# Altium integrated library Xilinx XC4000E.IntLib: 265 symbols (part 1 of 27)
Pins are listed as number, name and electrical type; pins without a type are passive.

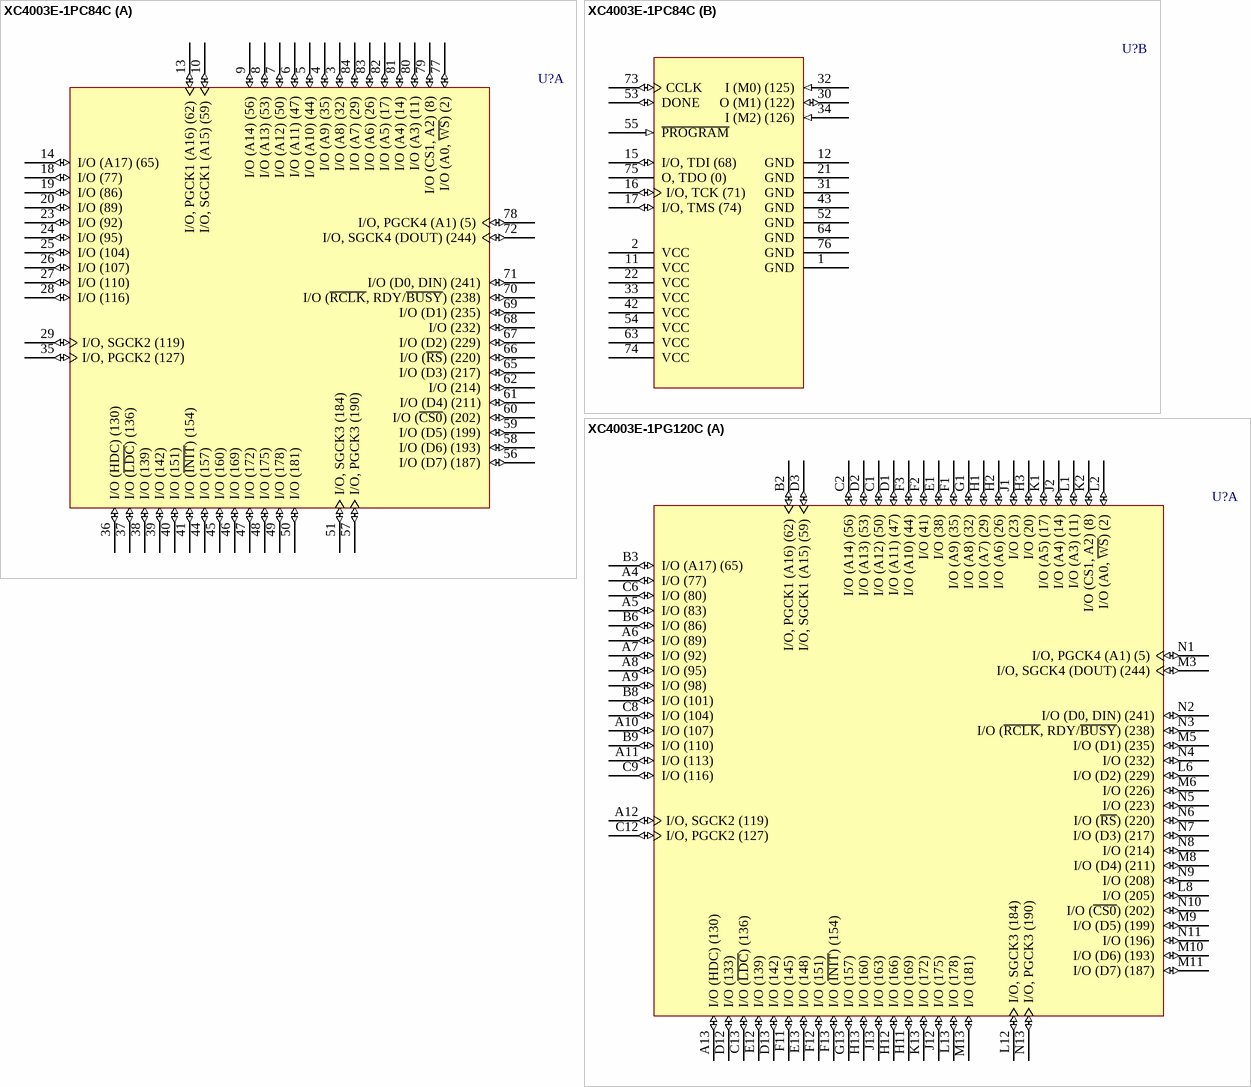
[diagram p0: symbols XC4003E-1PC84C to XC4003E-1PG120C]

## XC4003E-1PC84C
designator U?
XC4000E FPGA, 61 I/Os, 84-Pin PLCC, Speed Grade 1, Commercial Grade; Published: 28-Feb-2003; LatestRevisionDate: 13-Apr-2006; LatestRevisionNote: IPC-7351 Footprint Added.; DatasheetVersion: ver1.6, May-1999; PackageVersion: ver1.2, Jun-2004; PackageReference: PC84; Publisher: Altium Limited; PackageDescription: 84-Pin Plastic Leaded Chip Carrier (PC84); Supplier 1: Digi-Key; Supplier Part Number 1: XC4003E-1PC84C-ND; Code_JEDEC: MS-047; Code_IPC: PLCC-84; ComponentLink1Description: XC4000E Datasheet; ComponentLink1URL: http://www.xilinx.com/support/documentation/data_sheets/4000.pdf; ComponentLink2Description: Discontinuation Notice; ComponentLink2URL: http://www.xilinx.com/support/documentation/customer_notices/xcn05020.pdf; ComponentLink3Description: PC84 Package Drawing; ComponentLink3URL: http://www.xilinx.com/support/documentation/package_specs/pc84.pdf; ComponentLink4Description: XC4000 Documents; ComponentLink4URL: http://www.xilinx.com/support/documentation/xc4000.htm; ComponentLink5Description: Xilinx.com Home; ComponentLink5URL: http://www.xilinx.com
footprint PC84_N (Leaded Chip Carrier, 84-Leads, Body 29.3x29.3mm, Pitch 1.27mm, IPC Medium Density)
footprint PC84_L (Leaded Chip Carrier, 84-Leads, Body 29.3x29.3mm, Pitch 1.27mm, IPC High Density)
footprint PC84_M (Leaded Chip Carrier, 84-Leads, Body 29.3x29.3mm, Pitch 1.27mm, IPC Low Density)
part A pins: 3 I/O (A8) (32) (io), 4 I/O (A9) (35) (io), 5 I/O (A10) (44) (io), 6 I/O (A11) (47) (io), 7 I/O (A12) (50) (io), 8 I/O (A13) (53) (io), 9 I/O (A14) (56) (io), 10 I/O, SGCK1 (A15) (59) (io), 13 I/O, PGCK1 (A16) (62) (io), 14 I/O (A17) (65) (io), 18 I/O (77) (io), 19 I/O (86) (io), 20 I/O (89) (io), 23 I/O (92) (io), 24 I/O (95) (io), 25 I/O (104) (io), 26 I/O (107) (io), 27 I/O (110) (io), 28 I/O (116) (io), 29 I/O, SGCK2 (119) (io), 35 I/O, PGCK2 (127) (io), 36 I/O (HDC) (130) (io), 37 I/O (~{LDC}) (136) (io), 38 I/O (139) (io), 39 I/O (142) (io), 40 I/O (151) (io), 41 I/O (~{INIT}) (154) (io), 44 I/O (157) (io), 45 I/O (160) (io), 46 I/O (169) (io), 47 I/O (172) (io), 48 I/O (175) (io), 49 I/O (178) (io), 50 I/O (181) (io), 51 I/O, SGCK3 (184) (io), 56 I/O (D7) (187) (io), 57 I/O, PGCK3 (190) (io), 58 I/O (D6) (193) (io), 59 I/O (D5) (199) (io), 60 I/O (~{CS0}) (202) (io), 61 I/O (D4) (211) (io), 62 I/O (214) (io), 65 I/O (D3) (217) (io), 66 I/O (~{RS}) (220) (io), 67 I/O (D2) (229) (io), 68 I/O (232) (io), 69 I/O (D1) (235) (io), 70 I/O (~{RCLK}, RDY/~{BUSY}) (238) (io), 71 I/O (D0, DIN) (241) (io), 72 I/O, SGCK4 (DOUT) (244) (io), 77 I/O (A0, ~{WS}) (2) (io), 78 I/O, PGCK4 (A1) (5) (io), 79 I/O (CS1, A2) (8) (io), 80 I/O (A3) (11) (io), 81 I/O (A4) (14) (io), 82 I/O (A5) (17) (io), 83 I/O (A6) (26) (io), 84 I/O (A7) (29) (io)
part B pins: 1 GND (power), 2 VCC (power), 11 VCC (power), 12 GND (power), 15 I/O, TDI (68) (io), 16 I/O, TCK (71) (io), 17 I/O, TMS (74) (io), 21 GND (power), 22 VCC (power), 30 O (M1) (122) (io), 31 GND (power), 32 I (M0) (125) (in), 33 VCC (power), 34 I (M2) (126) (in), 42 VCC (power), 43 GND (power), 52 GND (power), 53 DONE (io), 54 VCC (power), 55 ~{PROGRAM} (in), 63 VCC (power), 64 GND (power), 73 CCLK (io), 74 VCC (power), 75 O, TDO (0) (hiz), 76 GND (power)

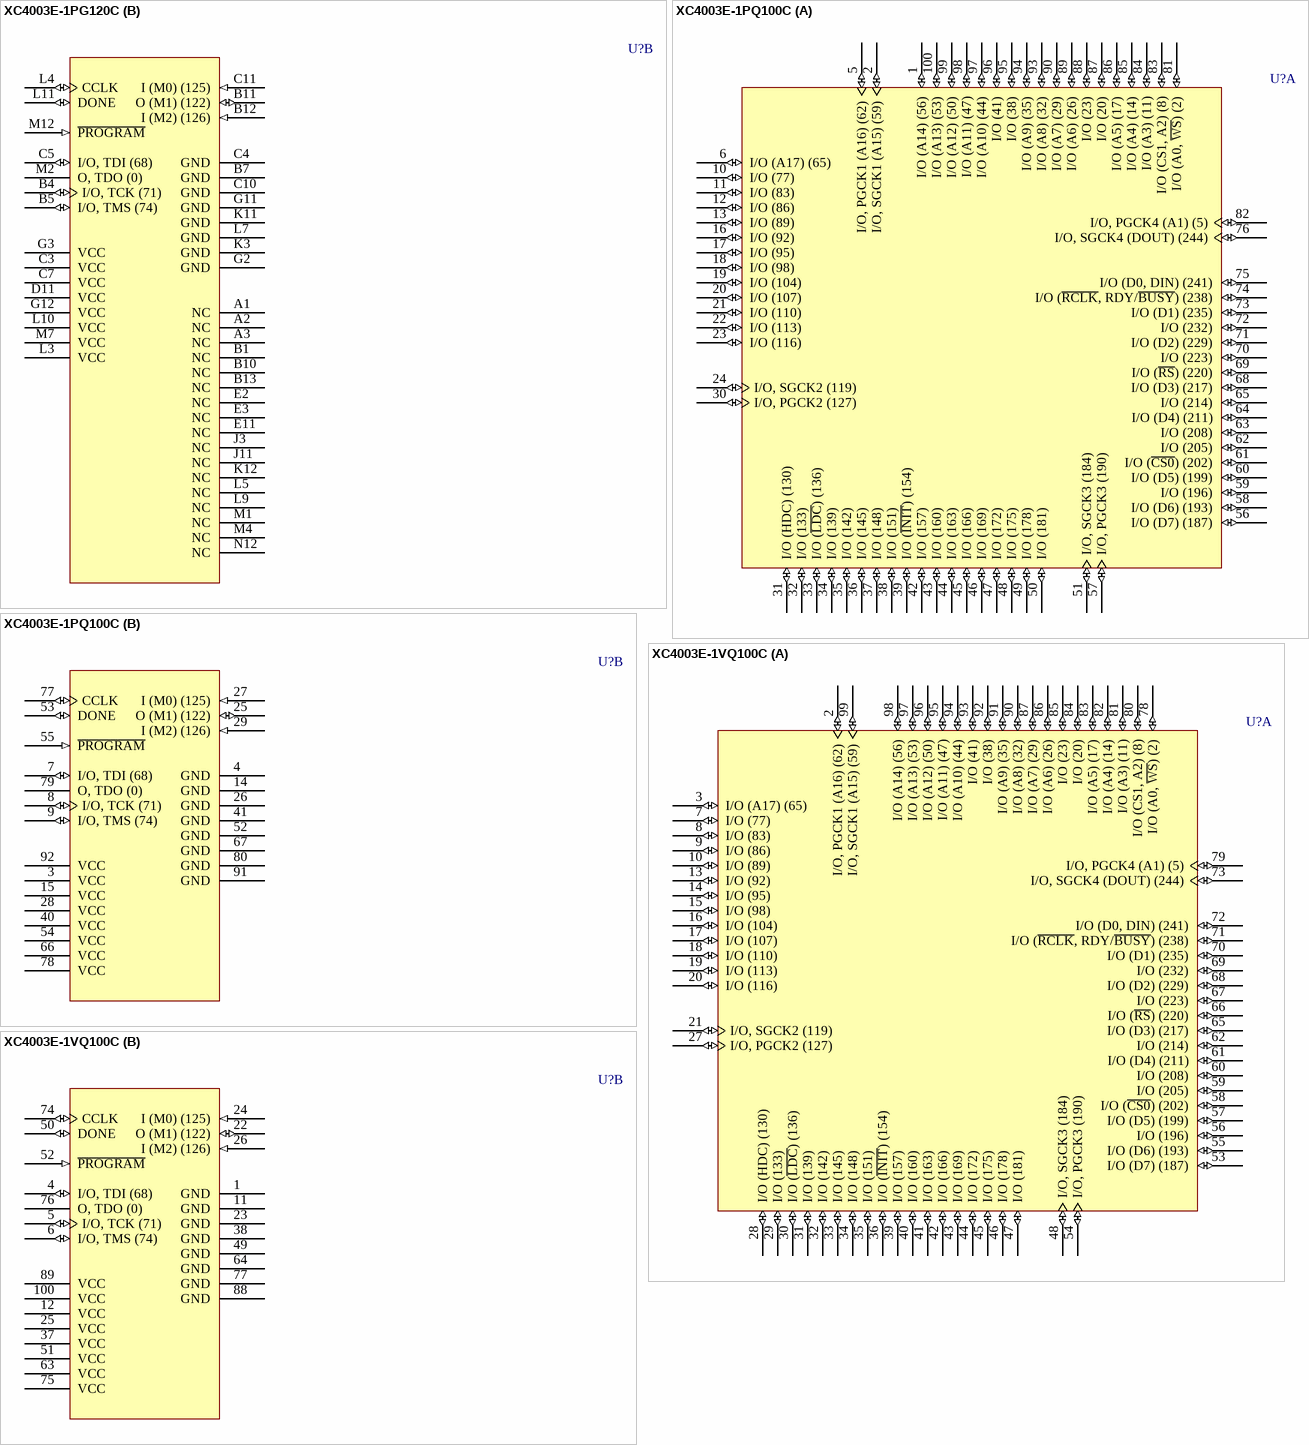
[diagram p1: symbols XC4003E-1PG120C to XC4003E-1VQ100C]

## XC4003E-1PG120C
designator U?
XC4000E FPGA, 80 I/Os, 120-Pin PGA, Speed Grade 1, Commercial Grade; Published: 28-Feb-2003; LatestRevisionDate: 04-Mar-2005; LatestRevisionNote: Stylized 3D Model Added.; DatasheetVersion: ver1.6, May-1999; PackageVersion: ver1.1, Apr-2001; PackageReference: PG120; Publisher: Altium Limited; PackageDescription: 120-Pin Ceramic Pin Grid Array (PG120); Supplier 1: Digi-Key; Supplier Part Number 1: XC4003E-1PG120C-ND; Code_JEDEC: MO-067-AE; ComponentLink1Description: XC4000E Datasheet; ComponentLink1URL: http://www.xilinx.com/support/documentation/data_sheets/4000.pdf; ComponentLink2Description: Discontinuation Notice; ComponentLink2URL: http://www.xilinx.com/support/documentation/customer_notices/pdn2002-03.pdf; ComponentLink3Description: PG120 Package Drawing; ComponentLink3URL: http://www.xilinx.com/support/documentation/package_specs/pg120.pdf; ComponentLink4Description: XC4000 Documents; ComponentLink4URL: http://www.xilinx.com/support/documentation/xc4000.htm; ComponentLink5Description: Xilinx.com Home; ComponentLink5URL: http://www.xilinx.com
footprint PG120 (PGA, 120-Leads, Body 34.5x34.5mm, Pitch 2.54mm)
part A pins: A4 I/O (77) (io), A5 I/O (83) (io), A6 I/O (89) (io), A7 I/O (92) (io), A8 I/O (95) (io), A9 I/O (98) (io), A10 I/O (107) (io), A11 I/O (113) (io), A12 I/O, SGCK2 (119) (io), A13 I/O (HDC) (130) (io), B2 I/O, PGCK1 (A16) (62) (io), B3 I/O (A17) (65) (io), B6 I/O (86) (io), B8 I/O (101) (io), B9 I/O (110) (io), C1 I/O (A12) (50) (io), C2 I/O (A14) (56) (io), C6 I/O (80) (io), C8 I/O (104) (io), C9 I/O (116) (io), C12 I/O, PGCK2 (127) (io), C13 I/O (~{LDC}) (136) (io), D1 I/O (A11) (47) (io), D2 I/O (A13) (53) (io), D3 I/O, SGCK1 (A15) (59) (io), D12 I/O (133) (io), D13 I/O (142) (io), E1 I/O (38) (io), E12 I/O (139) (io), E13 I/O (148) (io), F1 I/O (A9) (35) (io), F2 I/O (41) (io), F3 I/O (A10) (44) (io), F11 I/O (145) (io), F12 I/O (151) (io), F13 I/O (~{INIT}) (154) (io), G1 I/O (A8) (32) (io), G13 I/O (157) (io), H1 I/O (A7) (29) (io), H2 I/O (A6) (26) (io), H3 I/O (20) (io), H11 I/O (169) (io), H12 I/O (166) (io), H13 I/O (160) (io), J1 I/O (23) (io), J2 I/O (A4) (14) (io), J12 I/O (175) (io), J13 I/O (163) (io), K1 I/O (A5) (17) (io), K2 I/O (CS1, A2) (8) (io), K13 I/O (172) (io), L1 I/O (A3) (11) (io), L2 I/O (A0, ~{WS}) (2) (io), L6 I/O (D2) (229) (io), L8 I/O (205) (io), L12 I/O, SGCK3 (184) (io), L13 I/O (178) (io), M3 I/O, SGCK4 (DOUT) (244) (io), M5 I/O (D1) (235) (io), M6 I/O (226) (io), M8 I/O (D4) (211) (io), M9 I/O (D5) (199) (io), M10 I/O (D6) (193) (io), M11 I/O (D7) (187) (io), M13 I/O (181) (io), N1 I/O, PGCK4 (A1) (5) (io), N2 I/O (D0, DIN) (241) (io), N3 I/O (~{RCLK}, RDY/~{BUSY}) (238) (io), N4 I/O (232) (io), N5 I/O (223) (io), N6 I/O (~{RS}) (220) (io), N7 I/O (D3) (217) (io), N8 I/O (214) (io), N9 I/O (208) (io), N10 I/O (~{CS0}) (202) (io), N11 I/O (196) (io), N13 I/O, PGCK3 (190) (io)
part B pins: A1 NC, A2 NC, A3 NC, B1 NC, B4 I/O, TCK (71) (io), B5 I/O, TMS (74) (io), B7 GND (power), B10 NC, B11 O (M1) (122) (io), B12 I (M2) (126) (in), B13 NC, C3 VCC (power), C4 GND (power), C5 I/O, TDI (68) (io), C7 VCC (power), C10 GND (power), C11 I (M0) (125) (in), D11 VCC (power), E2 NC, E3 NC, E11 NC, G2 GND (power), G3 VCC (power), G11 GND (power), G12 VCC (power), J3 NC, J11 NC, K3 GND (power), K11 GND (power), K12 NC, L3 VCC (power), L4 CCLK (io), L5 NC, L7 GND (power), L9 NC, L10 VCC (power), L11 DONE (io), M1 NC, M2 O, TDO (0) (hiz), M4 NC, M7 VCC (power), M12 ~{PROGRAM} (in), N12 NC

## XC4003E-1PQ100C
designator U?
XC4000E FPGA, 77 I/Os, 100-Pin PQFP, Speed Grade 1, Commercial Grade; Published: 28-Feb-2003; LatestRevisionDate: 13-Apr-2006; LatestRevisionNote: IPC-7351 Footprint Added.; DatasheetVersion: ver1.6, May-1999; PackageVersion: ver1.2, Oct-2002; PackageReference: PQ100; Publisher: Altium Limited; PackageDescription: 100-Pin Plastic Quad Flat Pack (PQ100); Supplier 1: Digi-Key; Supplier Part Number 1: XC4003E-1PQ100C-ND; Code_IPC: QFP65P1720X2320-100; ComponentLink1Description: XC4000E Datasheet; ComponentLink1URL: http://www.xilinx.com/support/documentation/data_sheets/4000.pdf; ComponentLink2Description: Discontinuation Notice; ComponentLink2URL: http://www.xilinx.com/support/documentation/customer_notices/xcn05020.pdf; ComponentLink3Description: PQ100 Package Drawing; ComponentLink3URL: http://www.xilinx.com/support/documentation/package_specs/pq100.pdf; ComponentLink4Description: XC4000 Documents; ComponentLink4URL: http://www.xilinx.com/support/documentation/xc4000.htm; ComponentLink5Description: Xilinx.com Home; ComponentLink5URL: http://www.xilinx.com
footprint PQ100_N (QFP, 100-Leads, Body 20x14mm, Pitch 0.65mm, IPC Medium Density)
footprint PQ100_L (QFP, 100-Leads, Body 20x14mm, Pitch 0.65mm, IPC High Density)
footprint PQ100_M (QFP, 100-Leads, Body 20x14mm, Pitch 0.65mm, IPC Low Density)
part A pins: 1 I/O (A14) (56) (io), 2 I/O, SGCK1 (A15) (59) (io), 5 I/O, PGCK1 (A16) (62) (io), 6 I/O (A17) (65) (io), 10 I/O (77) (io), 11 I/O (83) (io), 12 I/O (86) (io), 13 I/O (89) (io), 16 I/O (92) (io), 17 I/O (95) (io), 18 I/O (98) (io), 19 I/O (104) (io), 20 I/O (107) (io), 21 I/O (110) (io), 22 I/O (113) (io), 23 I/O (116) (io), 24 I/O, SGCK2 (119) (io), 30 I/O, PGCK2 (127) (io), 31 I/O (HDC) (130) (io), 32 I/O (133) (io), 33 I/O (~{LDC}) (136) (io), 34 I/O (139) (io), 35 I/O (142) (io), 36 I/O (145) (io), 37 I/O (148) (io), 38 I/O (151) (io), 39 I/O (~{INIT}) (154) (io), 42 I/O (157) (io), 43 I/O (160) (io), 44 I/O (163) (io), 45 I/O (166) (io), 46 I/O (169) (io), 47 I/O (172) (io), 48 I/O (175) (io), 49 I/O (178) (io), 50 I/O (181) (io), 51 I/O, SGCK3 (184) (io), 56 I/O (D7) (187) (io), 57 I/O, PGCK3 (190) (io), 58 I/O (D6) (193) (io), 59 I/O (196) (io), 60 I/O (D5) (199) (io), 61 I/O (~{CS0}) (202) (io), 62 I/O (205) (io), 63 I/O (208) (io), 64 I/O (D4) (211) (io), 65 I/O (214) (io), 68 I/O (D3) (217) (io), 69 I/O (~{RS}) (220) (io), 70 I/O (223) (io), 71 I/O (D2) (229) (io), 72 I/O (232) (io), 73 I/O (D1) (235) (io), 74 I/O (~{RCLK}, RDY/~{BUSY}) (238) (io), 75 I/O (D0, DIN) (241) (io), 76 I/O, SGCK4 (DOUT) (244) (io), 81 I/O (A0, ~{WS}) (2) (io), 82 I/O, PGCK4 (A1) (5) (io), 83 I/O (CS1, A2) (8) (io), 84 I/O (A3) (11) (io), 85 I/O (A4) (14) (io), 86 I/O (A5) (17) (io), 87 I/O (20) (io), 88 I/O (23) (io), 89 I/O (A6) (26) (io), 90 I/O (A7) (29) (io), 93 I/O (A8) (32) (io), 94 I/O (A9) (35) (io), 95 I/O (38) (io), 96 I/O (41) (io), 97 I/O (A10) (44) (io), 98 I/O (A11) (47) (io), 99 I/O (A12) (50) (io), 100 I/O (A13) (53) (io)
part B pins: 3 VCC (power), 4 GND (power), 7 I/O, TDI (68) (io), 8 I/O, TCK (71) (io), 9 I/O, TMS (74) (io), 14 GND (power), 15 VCC (power), 25 O (M1) (122) (io), 26 GND (power), 27 I (M0) (125) (in), 28 VCC (power), 29 I (M2) (126) (in), 40 VCC (power), 41 GND (power), 52 GND (power), 53 DONE (io), 54 VCC (power), 55 ~{PROGRAM} (in), 66 VCC (power), 67 GND (power), 77 CCLK (io), 78 VCC (power), 79 O, TDO (0) (hiz), 80 GND (power), 91 GND (power), 92 VCC (power)

## XC4003E-1VQ100C
designator U?
XC4000E FPGA, 77 I/Os, 100-Pin VQFP, Speed Grade 1, Commercial Grade; Published: 28-Feb-2003; LatestRevisionDate: 13-Apr-2006; LatestRevisionNote: IPC-7351 Footprint Added.; DatasheetVersion: ver1.6, May-1999; PackageVersion: ver1.2.1, Feb-2007; PackageReference: VQ100; Publisher: Altium Limited; PackageDescription: 100-Pin Very Thin Quad Flat Pack (VQ100); Supplier 1: Digi-Key; Supplier Part Number 1: XC4003E-1VQ100C-ND; Code_JEDEC: MS-026-AED; ComponentLink1Description: XC4000E Datasheet; ComponentLink1URL: http://www.xilinx.com/support/documentation/data_sheets/4000.pdf; ComponentLink2Description: Discontinuation Notice; ComponentLink2URL: http://www.xilinx.com/support/documentation/customer_notices/pdn2004-21.pdf; ComponentLink3Description: VQ100 Package Drawing; ComponentLink3URL: http://www.xilinx.com/support/documentation/package_specs/vq100.pdf; ComponentLink4Description: XC4000 Documents; ComponentLink4URL: http://www.xilinx.com/support/documentation/xc4000.htm; ComponentLink5Description: Xilinx.com Home; ComponentLink5URL: http://www.xilinx.com
footprint VQ100_N (Thin QFP, 100-Leads, Body 14x14mm, Pitch 0.5mm, IPC Medium Density)
footprint VQ100_L (Thin QFP, 100-Leads, Body 14x14mm, Pitch 0.5mm, IPC High Density)
footprint VQ100_M (Thin QFP, 100-Leads, Body 14x14mm, Pitch 0.5mm, IPC Low Density)
part A pins: 2 I/O, PGCK1 (A16) (62) (io), 3 I/O (A17) (65) (io), 7 I/O (77) (io), 8 I/O (83) (io), 9 I/O (86) (io), 10 I/O (89) (io), 13 I/O (92) (io), 14 I/O (95) (io), 15 I/O (98) (io), 16 I/O (104) (io), 17 I/O (107) (io), 18 I/O (110) (io), 19 I/O (113) (io), 20 I/O (116) (io), 21 I/O, SGCK2 (119) (io), 27 I/O, PGCK2 (127) (io), 28 I/O (HDC) (130) (io), 29 I/O (133) (io), 30 I/O (~{LDC}) (136) (io), 31 I/O (139) (io), 32 I/O (142) (io), 33 I/O (145) (io), 34 I/O (148) (io), 35 I/O (151) (io), 36 I/O (~{INIT}) (154) (io), 39 I/O (157) (io), 40 I/O (160) (io), 41 I/O (163) (io), 42 I/O (166) (io), 43 I/O (169) (io), 44 I/O (172) (io), 45 I/O (175) (io), 46 I/O (178) (io), 47 I/O (181) (io), 48 I/O, SGCK3 (184) (io), 53 I/O (D7) (187) (io), 54 I/O, PGCK3 (190) (io), 55 I/O (D6) (193) (io), 56 I/O (196) (io), 57 I/O (D5) (199) (io), 58 I/O (~{CS0}) (202) (io), 59 I/O (205) (io), 60 I/O (208) (io), 61 I/O (D4) (211) (io), 62 I/O (214) (io), 65 I/O (D3) (217) (io), 66 I/O (~{RS}) (220) (io), 67 I/O (223) (io), 68 I/O (D2) (229) (io), 69 I/O (232) (io), 70 I/O (D1) (235) (io), 71 I/O (~{RCLK}, RDY/~{BUSY}) (238) (io), 72 I/O (D0, DIN) (241) (io), 73 I/O, SGCK4 (DOUT) (244) (io), 78 I/O (A0, ~{WS}) (2) (io), 79 I/O, PGCK4 (A1) (5) (io), 80 I/O (CS1, A2) (8) (io), 81 I/O (A3) (11) (io), 82 I/O (A4) (14) (io), 83 I/O (A5) (17) (io), 84 I/O (20) (io), 85 I/O (23) (io), 86 I/O (A6) (26) (io), 87 I/O (A7) (29) (io), 90 I/O (A8) (32) (io), 91 I/O (A9) (35) (io), 92 I/O (38) (io), 93 I/O (41) (io), 94 I/O (A10) (44) (io), 95 I/O (A11) (47) (io), 96 I/O (A12) (50) (io), 97 I/O (A13) (53) (io), 98 I/O (A14) (56) (io), 99 I/O, SGCK1 (A15) (59) (io)
part B pins: 1 GND (power), 4 I/O, TDI (68) (io), 5 I/O, TCK (71) (io), 6 I/O, TMS (74) (io), 11 GND (power), 12 VCC (power), 22 O (M1) (122) (io), 23 GND (power), 24 I (M0) (125) (in), 25 VCC (power), 26 I (M2) (126) (in), 37 VCC (power), 38 GND (power), 49 GND (power), 50 DONE (io), 51 VCC (power), 52 ~{PROGRAM} (in), 63 VCC (power), 64 GND (power), 74 CCLK (io), 75 VCC (power), 76 O, TDO (0) (hiz), 77 GND (power), 88 GND (power), 89 VCC (power), 100 VCC (power)

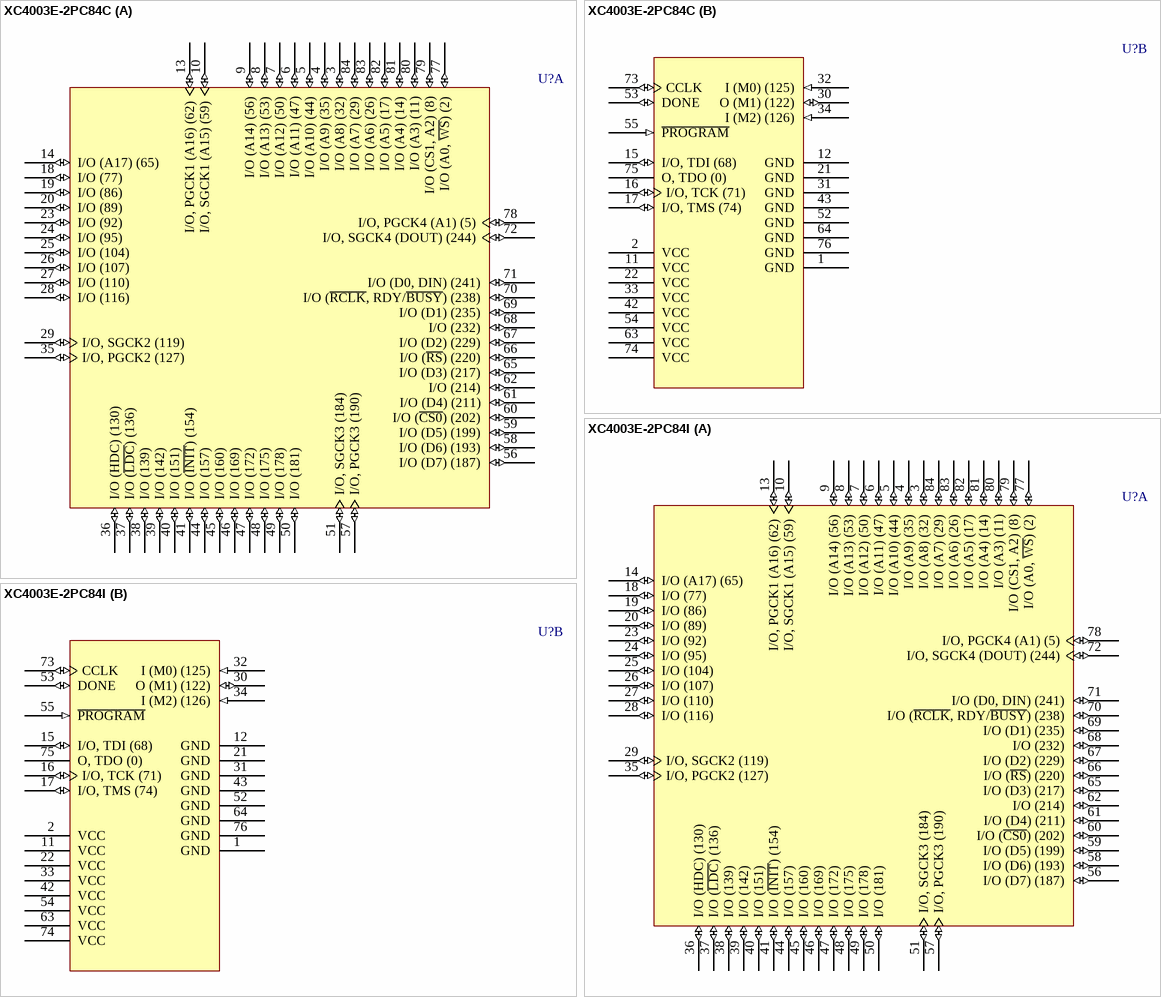
[diagram p2: symbols XC4003E-2PC84C to XC4003E-2PC84I]

## XC4003E-2PC84C
designator U?
XC4000E FPGA, 61 I/Os, 84-Pin PLCC, Speed Grade 2, Commercial Grade; Published: 28-Feb-2003; LatestRevisionDate: 13-Apr-2006; LatestRevisionNote: IPC-7351 Footprint Added.; DatasheetVersion: ver1.6, May-1999; PackageVersion: ver1.2, Jun-2004; PackageReference: PC84; Publisher: Altium Limited; PackageDescription: 84-Pin Plastic Leaded Chip Carrier (PC84); Supplier 1: Digi-Key; Supplier Part Number 1: XC4003E-2PC84C-ND; Code_JEDEC: MS-047; Code_IPC: PLCC-84; ComponentLink1Description: XC4000E Datasheet; ComponentLink1URL: http://www.xilinx.com/support/documentation/data_sheets/4000.pdf; ComponentLink2Description: Discontinuation Notice; ComponentLink2URL: http://www.xilinx.com/support/documentation/customer_notices/xcn05020.pdf; ComponentLink3Description: PC84 Package Drawing; ComponentLink3URL: http://www.xilinx.com/support/documentation/package_specs/pc84.pdf; ComponentLink4Description: XC4000 Documents; ComponentLink4URL: http://www.xilinx.com/support/documentation/xc4000.htm; ComponentLink5Description: Xilinx.com Home; ComponentLink5URL: http://www.xilinx.com
footprint PC84_N (Leaded Chip Carrier, 84-Leads, Body 29.3x29.3mm, Pitch 1.27mm, IPC Medium Density)
footprint PC84_L (Leaded Chip Carrier, 84-Leads, Body 29.3x29.3mm, Pitch 1.27mm, IPC High Density)
footprint PC84_M (Leaded Chip Carrier, 84-Leads, Body 29.3x29.3mm, Pitch 1.27mm, IPC Low Density)
part A pins: 3 I/O (A8) (32) (io), 4 I/O (A9) (35) (io), 5 I/O (A10) (44) (io), 6 I/O (A11) (47) (io), 7 I/O (A12) (50) (io), 8 I/O (A13) (53) (io), 9 I/O (A14) (56) (io), 10 I/O, SGCK1 (A15) (59) (io), 13 I/O, PGCK1 (A16) (62) (io), 14 I/O (A17) (65) (io), 18 I/O (77) (io), 19 I/O (86) (io), 20 I/O (89) (io), 23 I/O (92) (io), 24 I/O (95) (io), 25 I/O (104) (io), 26 I/O (107) (io), 27 I/O (110) (io), 28 I/O (116) (io), 29 I/O, SGCK2 (119) (io), 35 I/O, PGCK2 (127) (io), 36 I/O (HDC) (130) (io), 37 I/O (~{LDC}) (136) (io), 38 I/O (139) (io), 39 I/O (142) (io), 40 I/O (151) (io), 41 I/O (~{INIT}) (154) (io), 44 I/O (157) (io), 45 I/O (160) (io), 46 I/O (169) (io), 47 I/O (172) (io), 48 I/O (175) (io), 49 I/O (178) (io), 50 I/O (181) (io), 51 I/O, SGCK3 (184) (io), 56 I/O (D7) (187) (io), 57 I/O, PGCK3 (190) (io), 58 I/O (D6) (193) (io), 59 I/O (D5) (199) (io), 60 I/O (~{CS0}) (202) (io), 61 I/O (D4) (211) (io), 62 I/O (214) (io), 65 I/O (D3) (217) (io), 66 I/O (~{RS}) (220) (io), 67 I/O (D2) (229) (io), 68 I/O (232) (io), 69 I/O (D1) (235) (io), 70 I/O (~{RCLK}, RDY/~{BUSY}) (238) (io), 71 I/O (D0, DIN) (241) (io), 72 I/O, SGCK4 (DOUT) (244) (io), 77 I/O (A0, ~{WS}) (2) (io), 78 I/O, PGCK4 (A1) (5) (io), 79 I/O (CS1, A2) (8) (io), 80 I/O (A3) (11) (io), 81 I/O (A4) (14) (io), 82 I/O (A5) (17) (io), 83 I/O (A6) (26) (io), 84 I/O (A7) (29) (io)
part B pins: 1 GND (power), 2 VCC (power), 11 VCC (power), 12 GND (power), 15 I/O, TDI (68) (io), 16 I/O, TCK (71) (io), 17 I/O, TMS (74) (io), 21 GND (power), 22 VCC (power), 30 O (M1) (122) (io), 31 GND (power), 32 I (M0) (125) (in), 33 VCC (power), 34 I (M2) (126) (in), 42 VCC (power), 43 GND (power), 52 GND (power), 53 DONE (io), 54 VCC (power), 55 ~{PROGRAM} (in), 63 VCC (power), 64 GND (power), 73 CCLK (io), 74 VCC (power), 75 O, TDO (0) (hiz), 76 GND (power)

## XC4003E-2PC84I
designator U?
XC4000E FPGA, 61 I/Os, 84-Pin PLCC, Speed Grade 2, Industrial Grade; Published: 28-Feb-2003; LatestRevisionDate: 13-Apr-2006; LatestRevisionNote: IPC-7351 Footprint Added.; DatasheetVersion: ver1.6, May-1999; PackageVersion: ver1.2, Jun-2004; PackageReference: PC84; Publisher: Altium Limited; PackageDescription: 84-Pin Plastic Leaded Chip Carrier (PC84); Supplier 1: Digi-Key; Supplier Part Number 1: XC4003E-2PC84I-ND; Code_JEDEC: MS-047; Code_IPC: PLCC-84; ComponentLink1Description: XC4000E Datasheet; ComponentLink1URL: http://www.xilinx.com/support/documentation/data_sheets/4000.pdf; ComponentLink2Description: Discontinuation Notice; ComponentLink2URL: http://www.xilinx.com/support/documentation/customer_notices/xcn05020.pdf; ComponentLink3Description: PC84 Package Drawing; ComponentLink3URL: http://www.xilinx.com/support/documentation/package_specs/pc84.pdf; ComponentLink4Description: XC4000 Documents; ComponentLink4URL: http://www.xilinx.com/support/documentation/xc4000.htm; ComponentLink5Description: Xilinx.com Home; ComponentLink5URL: http://www.xilinx.com
footprint PC84_N (Leaded Chip Carrier, 84-Leads, Body 29.3x29.3mm, Pitch 1.27mm, IPC Medium Density)
footprint PC84_L (Leaded Chip Carrier, 84-Leads, Body 29.3x29.3mm, Pitch 1.27mm, IPC High Density)
footprint PC84_M (Leaded Chip Carrier, 84-Leads, Body 29.3x29.3mm, Pitch 1.27mm, IPC Low Density)
part A pins: 3 I/O (A8) (32) (io), 4 I/O (A9) (35) (io), 5 I/O (A10) (44) (io), 6 I/O (A11) (47) (io), 7 I/O (A12) (50) (io), 8 I/O (A13) (53) (io), 9 I/O (A14) (56) (io), 10 I/O, SGCK1 (A15) (59) (io), 13 I/O, PGCK1 (A16) (62) (io), 14 I/O (A17) (65) (io), 18 I/O (77) (io), 19 I/O (86) (io), 20 I/O (89) (io), 23 I/O (92) (io), 24 I/O (95) (io), 25 I/O (104) (io), 26 I/O (107) (io), 27 I/O (110) (io), 28 I/O (116) (io), 29 I/O, SGCK2 (119) (io), 35 I/O, PGCK2 (127) (io), 36 I/O (HDC) (130) (io), 37 I/O (~{LDC}) (136) (io), 38 I/O (139) (io), 39 I/O (142) (io), 40 I/O (151) (io), 41 I/O (~{INIT}) (154) (io), 44 I/O (157) (io), 45 I/O (160) (io), 46 I/O (169) (io), 47 I/O (172) (io), 48 I/O (175) (io), 49 I/O (178) (io), 50 I/O (181) (io), 51 I/O, SGCK3 (184) (io), 56 I/O (D7) (187) (io), 57 I/O, PGCK3 (190) (io), 58 I/O (D6) (193) (io), 59 I/O (D5) (199) (io), 60 I/O (~{CS0}) (202) (io), 61 I/O (D4) (211) (io), 62 I/O (214) (io), 65 I/O (D3) (217) (io), 66 I/O (~{RS}) (220) (io), 67 I/O (D2) (229) (io), 68 I/O (232) (io), 69 I/O (D1) (235) (io), 70 I/O (~{RCLK}, RDY/~{BUSY}) (238) (io), 71 I/O (D0, DIN) (241) (io), 72 I/O, SGCK4 (DOUT) (244) (io), 77 I/O (A0, ~{WS}) (2) (io), 78 I/O, PGCK4 (A1) (5) (io), 79 I/O (CS1, A2) (8) (io), 80 I/O (A3) (11) (io), 81 I/O (A4) (14) (io), 82 I/O (A5) (17) (io), 83 I/O (A6) (26) (io), 84 I/O (A7) (29) (io)
part B pins: 1 GND (power), 2 VCC (power), 11 VCC (power), 12 GND (power), 15 I/O, TDI (68) (io), 16 I/O, TCK (71) (io), 17 I/O, TMS (74) (io), 21 GND (power), 22 VCC (power), 30 O (M1) (122) (io), 31 GND (power), 32 I (M0) (125) (in), 33 VCC (power), 34 I (M2) (126) (in), 42 VCC (power), 43 GND (power), 52 GND (power), 53 DONE (io), 54 VCC (power), 55 ~{PROGRAM} (in), 63 VCC (power), 64 GND (power), 73 CCLK (io), 74 VCC (power), 75 O, TDO (0) (hiz), 76 GND (power)

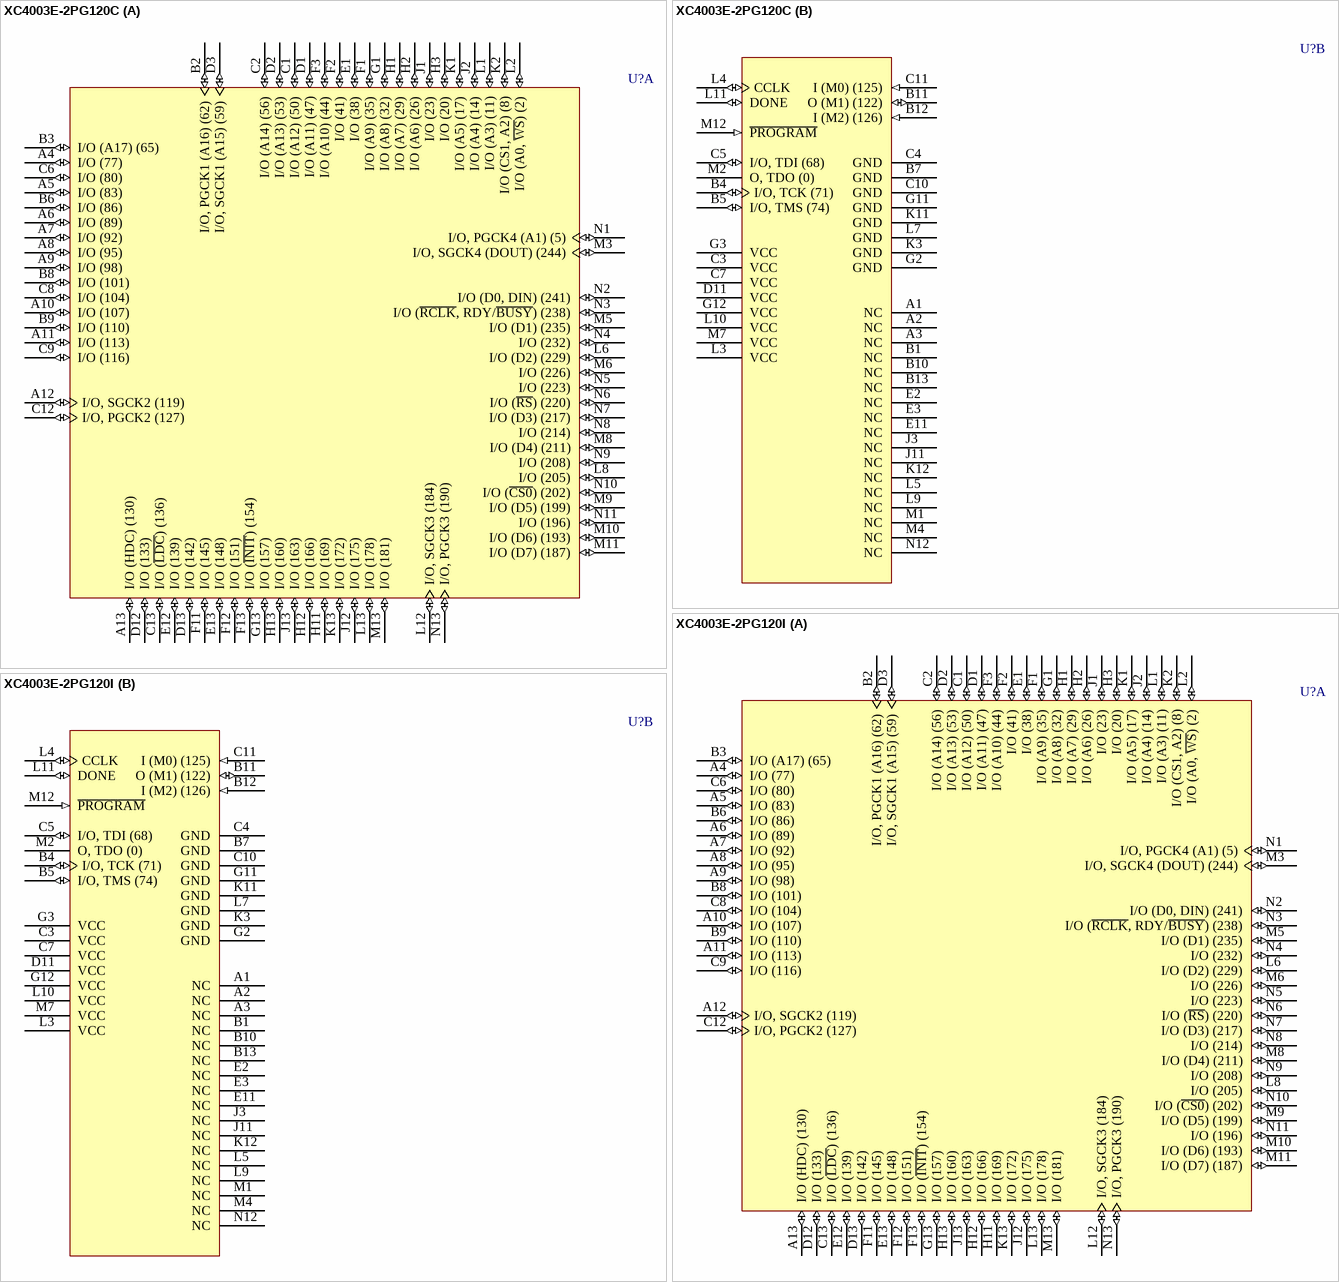
[diagram p3: symbols XC4003E-2PG120C to XC4003E-2PG120I]

## XC4003E-2PG120C
designator U?
XC4000E FPGA, 80 I/Os, 120-Pin PGA, Speed Grade 2, Commercial Grade; Published: 28-Feb-2003; LatestRevisionDate: 04-Mar-2005; LatestRevisionNote: Stylized 3D Model Added.; DatasheetVersion: ver1.6, May-1999; PackageVersion: ver1.1, Apr-2001; PackageReference: PG120; Publisher: Altium Limited; PackageDescription: 120-Pin Ceramic Pin Grid Array (PG120); Supplier 1: Digi-Key; Supplier Part Number 1: XC4003E-2PG120C-ND; Code_JEDEC: MO-067-AE; ComponentLink1Description: XC4000E Datasheet; ComponentLink1URL: http://www.xilinx.com/support/documentation/data_sheets/4000.pdf; ComponentLink2Description: Discontinuation Notice; ComponentLink2URL: http://www.xilinx.com/support/documentation/customer_notices/pdn2002-03.pdf; ComponentLink3Description: PG120 Package Drawing; ComponentLink3URL: http://www.xilinx.com/support/documentation/package_specs/pg120.pdf; ComponentLink4Description: XC4000 Documents; ComponentLink4URL: http://www.xilinx.com/support/documentation/xc4000.htm; ComponentLink5Description: Xilinx.com Home; ComponentLink5URL: http://www.xilinx.com
footprint PG120 (PGA, 120-Leads, Body 34.5x34.5mm, Pitch 2.54mm)
part A pins: A4 I/O (77) (io), A5 I/O (83) (io), A6 I/O (89) (io), A7 I/O (92) (io), A8 I/O (95) (io), A9 I/O (98) (io), A10 I/O (107) (io), A11 I/O (113) (io), A12 I/O, SGCK2 (119) (io), A13 I/O (HDC) (130) (io), B2 I/O, PGCK1 (A16) (62) (io), B3 I/O (A17) (65) (io), B6 I/O (86) (io), B8 I/O (101) (io), B9 I/O (110) (io), C1 I/O (A12) (50) (io), C2 I/O (A14) (56) (io), C6 I/O (80) (io), C8 I/O (104) (io), C9 I/O (116) (io), C12 I/O, PGCK2 (127) (io), C13 I/O (~{LDC}) (136) (io), D1 I/O (A11) (47) (io), D2 I/O (A13) (53) (io), D3 I/O, SGCK1 (A15) (59) (io), D12 I/O (133) (io), D13 I/O (142) (io), E1 I/O (38) (io), E12 I/O (139) (io), E13 I/O (148) (io), F1 I/O (A9) (35) (io), F2 I/O (41) (io), F3 I/O (A10) (44) (io), F11 I/O (145) (io), F12 I/O (151) (io), F13 I/O (~{INIT}) (154) (io), G1 I/O (A8) (32) (io), G13 I/O (157) (io), H1 I/O (A7) (29) (io), H2 I/O (A6) (26) (io), H3 I/O (20) (io), H11 I/O (169) (io), H12 I/O (166) (io), H13 I/O (160) (io), J1 I/O (23) (io), J2 I/O (A4) (14) (io), J12 I/O (175) (io), J13 I/O (163) (io), K1 I/O (A5) (17) (io), K2 I/O (CS1, A2) (8) (io), K13 I/O (172) (io), L1 I/O (A3) (11) (io), L2 I/O (A0, ~{WS}) (2) (io), L6 I/O (D2) (229) (io), L8 I/O (205) (io), L12 I/O, SGCK3 (184) (io), L13 I/O (178) (io), M3 I/O, SGCK4 (DOUT) (244) (io), M5 I/O (D1) (235) (io), M6 I/O (226) (io), M8 I/O (D4) (211) (io), M9 I/O (D5) (199) (io), M10 I/O (D6) (193) (io), M11 I/O (D7) (187) (io), M13 I/O (181) (io), N1 I/O, PGCK4 (A1) (5) (io), N2 I/O (D0, DIN) (241) (io), N3 I/O (~{RCLK}, RDY/~{BUSY}) (238) (io), N4 I/O (232) (io), N5 I/O (223) (io), N6 I/O (~{RS}) (220) (io), N7 I/O (D3) (217) (io), N8 I/O (214) (io), N9 I/O (208) (io), N10 I/O (~{CS0}) (202) (io), N11 I/O (196) (io), N13 I/O, PGCK3 (190) (io)
part B pins: A1 NC, A2 NC, A3 NC, B1 NC, B4 I/O, TCK (71) (io), B5 I/O, TMS (74) (io), B7 GND (power), B10 NC, B11 O (M1) (122) (io), B12 I (M2) (126) (in), B13 NC, C3 VCC (power), C4 GND (power), C5 I/O, TDI (68) (io), C7 VCC (power), C10 GND (power), C11 I (M0) (125) (in), D11 VCC (power), E2 NC, E3 NC, E11 NC, G2 GND (power), G3 VCC (power), G11 GND (power), G12 VCC (power), J3 NC, J11 NC, K3 GND (power), K11 GND (power), K12 NC, L3 VCC (power), L4 CCLK (io), L5 NC, L7 GND (power), L9 NC, L10 VCC (power), L11 DONE (io), M1 NC, M2 O, TDO (0) (hiz), M4 NC, M7 VCC (power), M12 ~{PROGRAM} (in), N12 NC

## XC4003E-2PG120I
designator U?
XC4000E FPGA, 80 I/Os, 120-Pin PGA, Speed Grade 2, Industrial Grade; Published: 28-Feb-2003; LatestRevisionDate: 04-Mar-2005; LatestRevisionNote: Stylized 3D Model Added.; DatasheetVersion: ver1.6, May-1999; PackageVersion: ver1.1, Apr-2001; PackageReference: PG120; Publisher: Altium Limited; PackageDescription: 120-Pin Ceramic Pin Grid Array (PG120); Supplier 1: Digi-Key; Supplier Part Number 1: XC4003E-2PG120I-ND; Code_JEDEC: MO-067-AE; ComponentLink1Description: XC4000E Datasheet; ComponentLink1URL: http://www.xilinx.com/support/documentation/data_sheets/4000.pdf; ComponentLink2Description: Discontinuation Notice; ComponentLink2URL: http://www.xilinx.com/support/documentation/customer_notices/pdn2002-03.pdf; ComponentLink3Description: PG120 Package Drawing; ComponentLink3URL: http://www.xilinx.com/support/documentation/package_specs/pg120.pdf; ComponentLink4Description: XC4000 Documents; ComponentLink4URL: http://www.xilinx.com/support/documentation/xc4000.htm; ComponentLink5Description: Xilinx.com Home; ComponentLink5URL: http://www.xilinx.com
footprint PG120 (PGA, 120-Leads, Body 34.5x34.5mm, Pitch 2.54mm)
part A pins: A4 I/O (77) (io), A5 I/O (83) (io), A6 I/O (89) (io), A7 I/O (92) (io), A8 I/O (95) (io), A9 I/O (98) (io), A10 I/O (107) (io), A11 I/O (113) (io), A12 I/O, SGCK2 (119) (io), A13 I/O (HDC) (130) (io), B2 I/O, PGCK1 (A16) (62) (io), B3 I/O (A17) (65) (io), B6 I/O (86) (io), B8 I/O (101) (io), B9 I/O (110) (io), C1 I/O (A12) (50) (io), C2 I/O (A14) (56) (io), C6 I/O (80) (io), C8 I/O (104) (io), C9 I/O (116) (io), C12 I/O, PGCK2 (127) (io), C13 I/O (~{LDC}) (136) (io), D1 I/O (A11) (47) (io), D2 I/O (A13) (53) (io), D3 I/O, SGCK1 (A15) (59) (io), D12 I/O (133) (io), D13 I/O (142) (io), E1 I/O (38) (io), E12 I/O (139) (io), E13 I/O (148) (io), F1 I/O (A9) (35) (io), F2 I/O (41) (io), F3 I/O (A10) (44) (io), F11 I/O (145) (io), F12 I/O (151) (io), F13 I/O (~{INIT}) (154) (io), G1 I/O (A8) (32) (io), G13 I/O (157) (io), H1 I/O (A7) (29) (io), H2 I/O (A6) (26) (io), H3 I/O (20) (io), H11 I/O (169) (io), H12 I/O (166) (io), H13 I/O (160) (io), J1 I/O (23) (io), J2 I/O (A4) (14) (io), J12 I/O (175) (io), J13 I/O (163) (io), K1 I/O (A5) (17) (io), K2 I/O (CS1, A2) (8) (io), K13 I/O (172) (io), L1 I/O (A3) (11) (io), L2 I/O (A0, ~{WS}) (2) (io), L6 I/O (D2) (229) (io), L8 I/O (205) (io), L12 I/O, SGCK3 (184) (io), L13 I/O (178) (io), M3 I/O, SGCK4 (DOUT) (244) (io), M5 I/O (D1) (235) (io), M6 I/O (226) (io), M8 I/O (D4) (211) (io), M9 I/O (D5) (199) (io), M10 I/O (D6) (193) (io), M11 I/O (D7) (187) (io), M13 I/O (181) (io), N1 I/O, PGCK4 (A1) (5) (io), N2 I/O (D0, DIN) (241) (io), N3 I/O (~{RCLK}, RDY/~{BUSY}) (238) (io), N4 I/O (232) (io), N5 I/O (223) (io), N6 I/O (~{RS}) (220) (io), N7 I/O (D3) (217) (io), N8 I/O (214) (io), N9 I/O (208) (io), N10 I/O (~{CS0}) (202) (io), N11 I/O (196) (io), N13 I/O, PGCK3 (190) (io)
part B pins: A1 NC, A2 NC, A3 NC, B1 NC, B4 I/O, TCK (71) (io), B5 I/O, TMS (74) (io), B7 GND (power), B10 NC, B11 O (M1) (122) (io), B12 I (M2) (126) (in), B13 NC, C3 VCC (power), C4 GND (power), C5 I/O, TDI (68) (io), C7 VCC (power), C10 GND (power), C11 I (M0) (125) (in), D11 VCC (power), E2 NC, E3 NC, E11 NC, G2 GND (power), G3 VCC (power), G11 GND (power), G12 VCC (power), J3 NC, J11 NC, K3 GND (power), K11 GND (power), K12 NC, L3 VCC (power), L4 CCLK (io), L5 NC, L7 GND (power), L9 NC, L10 VCC (power), L11 DONE (io), M1 NC, M2 O, TDO (0) (hiz), M4 NC, M7 VCC (power), M12 ~{PROGRAM} (in), N12 NC

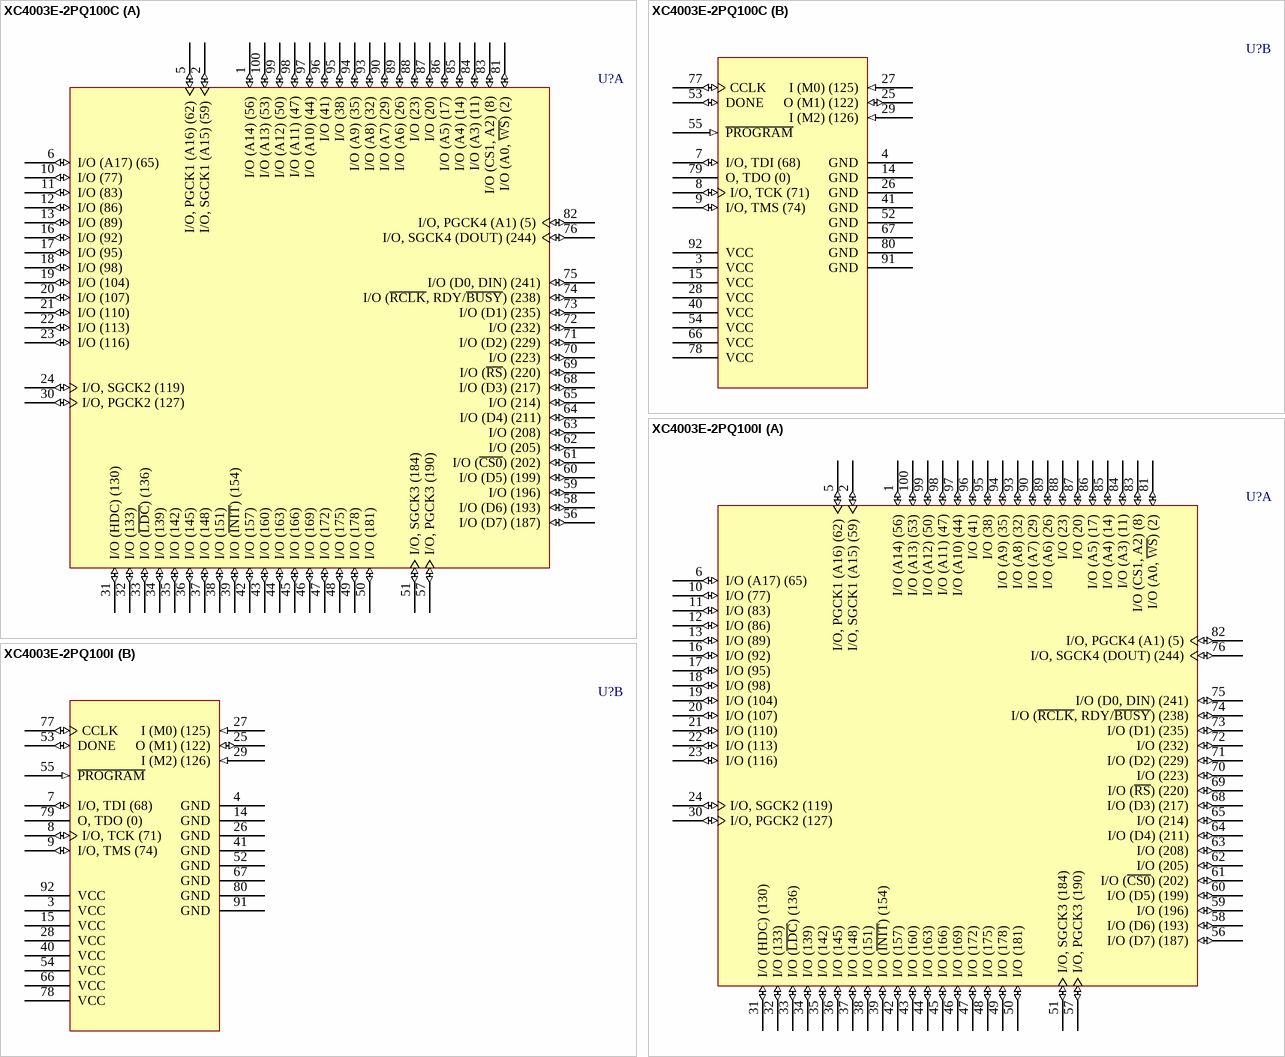
[diagram p4: symbols XC4003E-2PQ100C to XC4003E-2PQ100I]

## XC4003E-2PQ100C
designator U?
XC4000E FPGA, 77 I/Os, 100-Pin PQFP, Speed Grade 2, Commercial Grade; Published: 28-Feb-2003; LatestRevisionDate: 13-Apr-2006; LatestRevisionNote: IPC-7351 Footprint Added.; DatasheetVersion: ver1.6, May-1999; PackageVersion: ver1.2, Oct-2002; PackageReference: PQ100; Publisher: Altium Limited; PackageDescription: 100-Pin Plastic Quad Flat Pack (PQ100); Supplier 1: Digi-Key; Supplier Part Number 1: XC4003E-2PQ100C-ND; Code_IPC: QFP65P1720X2320-100; ComponentLink1Description: XC4000E Datasheet; ComponentLink1URL: http://www.xilinx.com/support/documentation/data_sheets/4000.pdf; ComponentLink2Description: Discontinuation Notice; ComponentLink2URL: http://www.xilinx.com/support/documentation/customer_notices/xcn05020.pdf; ComponentLink3Description: PQ100 Package Drawing; ComponentLink3URL: http://www.xilinx.com/support/documentation/package_specs/pq100.pdf; ComponentLink4Description: XC4000 Documents; ComponentLink4URL: http://www.xilinx.com/support/documentation/xc4000.htm; ComponentLink5Description: Xilinx.com Home; ComponentLink5URL: http://www.xilinx.com
footprint PQ100_N (QFP, 100-Leads, Body 20x14mm, Pitch 0.65mm, IPC Medium Density)
footprint PQ100_L (QFP, 100-Leads, Body 20x14mm, Pitch 0.65mm, IPC High Density)
footprint PQ100_M (QFP, 100-Leads, Body 20x14mm, Pitch 0.65mm, IPC Low Density)
part A pins: 1 I/O (A14) (56) (io), 2 I/O, SGCK1 (A15) (59) (io), 5 I/O, PGCK1 (A16) (62) (io), 6 I/O (A17) (65) (io), 10 I/O (77) (io), 11 I/O (83) (io), 12 I/O (86) (io), 13 I/O (89) (io), 16 I/O (92) (io), 17 I/O (95) (io), 18 I/O (98) (io), 19 I/O (104) (io), 20 I/O (107) (io), 21 I/O (110) (io), 22 I/O (113) (io), 23 I/O (116) (io), 24 I/O, SGCK2 (119) (io), 30 I/O, PGCK2 (127) (io), 31 I/O (HDC) (130) (io), 32 I/O (133) (io), 33 I/O (~{LDC}) (136) (io), 34 I/O (139) (io), 35 I/O (142) (io), 36 I/O (145) (io), 37 I/O (148) (io), 38 I/O (151) (io), 39 I/O (~{INIT}) (154) (io), 42 I/O (157) (io), 43 I/O (160) (io), 44 I/O (163) (io), 45 I/O (166) (io), 46 I/O (169) (io), 47 I/O (172) (io), 48 I/O (175) (io), 49 I/O (178) (io), 50 I/O (181) (io), 51 I/O, SGCK3 (184) (io), 56 I/O (D7) (187) (io), 57 I/O, PGCK3 (190) (io), 58 I/O (D6) (193) (io), 59 I/O (196) (io), 60 I/O (D5) (199) (io), 61 I/O (~{CS0}) (202) (io), 62 I/O (205) (io), 63 I/O (208) (io), 64 I/O (D4) (211) (io), 65 I/O (214) (io), 68 I/O (D3) (217) (io), 69 I/O (~{RS}) (220) (io), 70 I/O (223) (io), 71 I/O (D2) (229) (io), 72 I/O (232) (io), 73 I/O (D1) (235) (io), 74 I/O (~{RCLK}, RDY/~{BUSY}) (238) (io), 75 I/O (D0, DIN) (241) (io), 76 I/O, SGCK4 (DOUT) (244) (io), 81 I/O (A0, ~{WS}) (2) (io), 82 I/O, PGCK4 (A1) (5) (io), 83 I/O (CS1, A2) (8) (io), 84 I/O (A3) (11) (io), 85 I/O (A4) (14) (io), 86 I/O (A5) (17) (io), 87 I/O (20) (io), 88 I/O (23) (io), 89 I/O (A6) (26) (io), 90 I/O (A7) (29) (io), 93 I/O (A8) (32) (io), 94 I/O (A9) (35) (io), 95 I/O (38) (io), 96 I/O (41) (io), 97 I/O (A10) (44) (io), 98 I/O (A11) (47) (io), 99 I/O (A12) (50) (io), 100 I/O (A13) (53) (io)
part B pins: 3 VCC (power), 4 GND (power), 7 I/O, TDI (68) (io), 8 I/O, TCK (71) (io), 9 I/O, TMS (74) (io), 14 GND (power), 15 VCC (power), 25 O (M1) (122) (io), 26 GND (power), 27 I (M0) (125) (in), 28 VCC (power), 29 I (M2) (126) (in), 40 VCC (power), 41 GND (power), 52 GND (power), 53 DONE (io), 54 VCC (power), 55 ~{PROGRAM} (in), 66 VCC (power), 67 GND (power), 77 CCLK (io), 78 VCC (power), 79 O, TDO (0) (hiz), 80 GND (power), 91 GND (power), 92 VCC (power)

## XC4003E-2PQ100I
designator U?
XC4000E FPGA, 77 I/Os, 100-Pin PQFP, Speed Grade 2, Industrial Grade; Published: 28-Feb-2003; LatestRevisionDate: 13-Apr-2006; LatestRevisionNote: IPC-7351 Footprint Added.; DatasheetVersion: ver1.6, May-1999; PackageVersion: ver1.2, Oct-2002; PackageReference: PQ100; Publisher: Altium Limited; PackageDescription: 100-Pin Plastic Quad Flat Pack (PQ100); Supplier 1: Digi-Key; Supplier Part Number 1: XC4003E-2PQ100I-ND; Code_IPC: QFP65P1720X2320-100; ComponentLink1Description: XC4000E Datasheet; ComponentLink1URL: http://www.xilinx.com/support/documentation/data_sheets/4000.pdf; ComponentLink2Description: Discontinuation Notice; ComponentLink2URL: http://www.xilinx.com/support/documentation/customer_notices/xcn05020.pdf; ComponentLink3Description: PQ100 Package Drawing; ComponentLink3URL: http://www.xilinx.com/support/documentation/package_specs/pq100.pdf; ComponentLink4Description: XC4000 Documents; ComponentLink4URL: http://www.xilinx.com/support/documentation/xc4000.htm; ComponentLink5Description: Xilinx.com Home; ComponentLink5URL: http://www.xilinx.com
footprint PQ100_N (QFP, 100-Leads, Body 20x14mm, Pitch 0.65mm, IPC Medium Density)
footprint PQ100_L (QFP, 100-Leads, Body 20x14mm, Pitch 0.65mm, IPC High Density)
footprint PQ100_M (QFP, 100-Leads, Body 20x14mm, Pitch 0.65mm, IPC Low Density)
part A pins: 1 I/O (A14) (56) (io), 2 I/O, SGCK1 (A15) (59) (io), 5 I/O, PGCK1 (A16) (62) (io), 6 I/O (A17) (65) (io), 10 I/O (77) (io), 11 I/O (83) (io), 12 I/O (86) (io), 13 I/O (89) (io), 16 I/O (92) (io), 17 I/O (95) (io), 18 I/O (98) (io), 19 I/O (104) (io), 20 I/O (107) (io), 21 I/O (110) (io), 22 I/O (113) (io), 23 I/O (116) (io), 24 I/O, SGCK2 (119) (io), 30 I/O, PGCK2 (127) (io), 31 I/O (HDC) (130) (io), 32 I/O (133) (io), 33 I/O (~{LDC}) (136) (io), 34 I/O (139) (io), 35 I/O (142) (io), 36 I/O (145) (io), 37 I/O (148) (io), 38 I/O (151) (io), 39 I/O (~{INIT}) (154) (io), 42 I/O (157) (io), 43 I/O (160) (io), 44 I/O (163) (io), 45 I/O (166) (io), 46 I/O (169) (io), 47 I/O (172) (io), 48 I/O (175) (io), 49 I/O (178) (io), 50 I/O (181) (io), 51 I/O, SGCK3 (184) (io), 56 I/O (D7) (187) (io), 57 I/O, PGCK3 (190) (io), 58 I/O (D6) (193) (io), 59 I/O (196) (io), 60 I/O (D5) (199) (io), 61 I/O (~{CS0}) (202) (io), 62 I/O (205) (io), 63 I/O (208) (io), 64 I/O (D4) (211) (io), 65 I/O (214) (io), 68 I/O (D3) (217) (io), 69 I/O (~{RS}) (220) (io), 70 I/O (223) (io), 71 I/O (D2) (229) (io), 72 I/O (232) (io), 73 I/O (D1) (235) (io), 74 I/O (~{RCLK}, RDY/~{BUSY}) (238) (io), 75 I/O (D0, DIN) (241) (io), 76 I/O, SGCK4 (DOUT) (244) (io), 81 I/O (A0, ~{WS}) (2) (io), 82 I/O, PGCK4 (A1) (5) (io), 83 I/O (CS1, A2) (8) (io), 84 I/O (A3) (11) (io), 85 I/O (A4) (14) (io), 86 I/O (A5) (17) (io), 87 I/O (20) (io), 88 I/O (23) (io), 89 I/O (A6) (26) (io), 90 I/O (A7) (29) (io), 93 I/O (A8) (32) (io), 94 I/O (A9) (35) (io), 95 I/O (38) (io), 96 I/O (41) (io), 97 I/O (A10) (44) (io), 98 I/O (A11) (47) (io), 99 I/O (A12) (50) (io), 100 I/O (A13) (53) (io)
part B pins: 3 VCC (power), 4 GND (power), 7 I/O, TDI (68) (io), 8 I/O, TCK (71) (io), 9 I/O, TMS (74) (io), 14 GND (power), 15 VCC (power), 25 O (M1) (122) (io), 26 GND (power), 27 I (M0) (125) (in), 28 VCC (power), 29 I (M2) (126) (in), 40 VCC (power), 41 GND (power), 52 GND (power), 53 DONE (io), 54 VCC (power), 55 ~{PROGRAM} (in), 66 VCC (power), 67 GND (power), 77 CCLK (io), 78 VCC (power), 79 O, TDO (0) (hiz), 80 GND (power), 91 GND (power), 92 VCC (power)

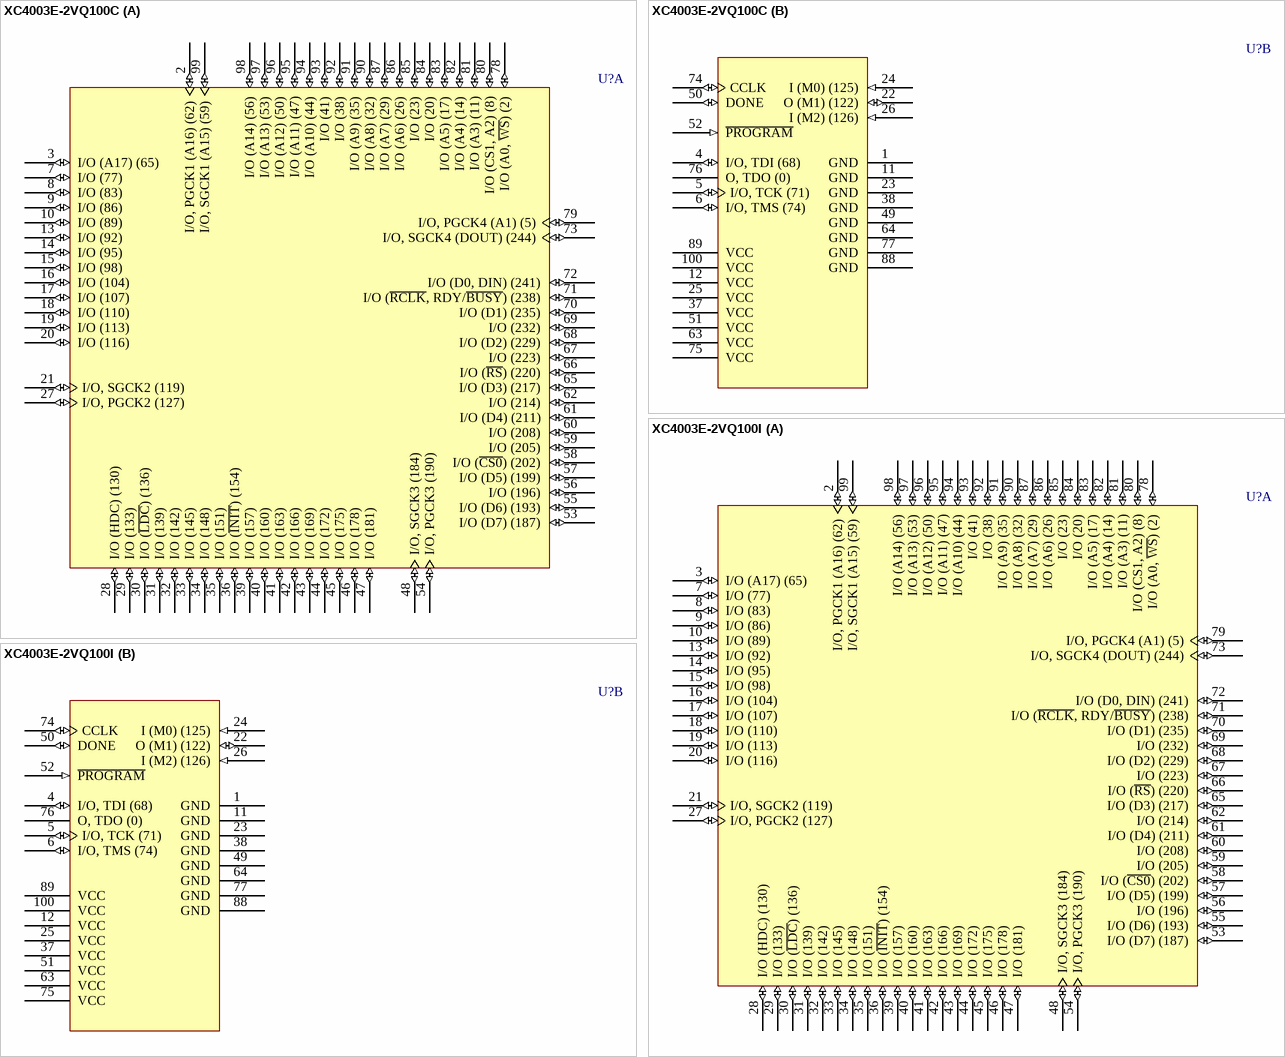
[diagram p5: symbols XC4003E-2VQ100C to XC4003E-2VQ100I]

## XC4003E-2VQ100C
designator U?
XC4000E FPGA, 77 I/Os, 100-Pin VQFP, Speed Grade 2, Commercial Grade; Published: 28-Feb-2003; LatestRevisionDate: 13-Apr-2006; LatestRevisionNote: IPC-7351 Footprint Added.; DatasheetVersion: ver1.6, May-1999; PackageVersion: ver1.2.1, Feb-2007; PackageReference: VQ100; Publisher: Altium Limited; PackageDescription: 100-Pin Very Thin Quad Flat Pack (VQ100); Supplier 1: Digi-Key; Supplier Part Number 1: XC4003E-2VQ100C-ND; Code_JEDEC: MS-026-AED; ComponentLink1Description: XC4000E Datasheet; ComponentLink1URL: http://www.xilinx.com/support/documentation/data_sheets/4000.pdf; ComponentLink2Description: Discontinuation Notice; ComponentLink2URL: http://www.xilinx.com/support/documentation/customer_notices/pdn2004-21.pdf; ComponentLink3Description: VQ100 Package Drawing; ComponentLink3URL: http://www.xilinx.com/support/documentation/package_specs/vq100.pdf; ComponentLink4Description: XC4000 Documents; ComponentLink4URL: http://www.xilinx.com/support/documentation/xc4000.htm; ComponentLink5Description: Xilinx.com Home; ComponentLink5URL: http://www.xilinx.com
footprint VQ100_N (Thin QFP, 100-Leads, Body 14x14mm, Pitch 0.5mm, IPC Medium Density)
footprint VQ100_L (Thin QFP, 100-Leads, Body 14x14mm, Pitch 0.5mm, IPC High Density)
footprint VQ100_M (Thin QFP, 100-Leads, Body 14x14mm, Pitch 0.5mm, IPC Low Density)
part A pins: 2 I/O, PGCK1 (A16) (62) (io), 3 I/O (A17) (65) (io), 7 I/O (77) (io), 8 I/O (83) (io), 9 I/O (86) (io), 10 I/O (89) (io), 13 I/O (92) (io), 14 I/O (95) (io), 15 I/O (98) (io), 16 I/O (104) (io), 17 I/O (107) (io), 18 I/O (110) (io), 19 I/O (113) (io), 20 I/O (116) (io), 21 I/O, SGCK2 (119) (io), 27 I/O, PGCK2 (127) (io), 28 I/O (HDC) (130) (io), 29 I/O (133) (io), 30 I/O (~{LDC}) (136) (io), 31 I/O (139) (io), 32 I/O (142) (io), 33 I/O (145) (io), 34 I/O (148) (io), 35 I/O (151) (io), 36 I/O (~{INIT}) (154) (io), 39 I/O (157) (io), 40 I/O (160) (io), 41 I/O (163) (io), 42 I/O (166) (io), 43 I/O (169) (io), 44 I/O (172) (io), 45 I/O (175) (io), 46 I/O (178) (io), 47 I/O (181) (io), 48 I/O, SGCK3 (184) (io), 53 I/O (D7) (187) (io), 54 I/O, PGCK3 (190) (io), 55 I/O (D6) (193) (io), 56 I/O (196) (io), 57 I/O (D5) (199) (io), 58 I/O (~{CS0}) (202) (io), 59 I/O (205) (io), 60 I/O (208) (io), 61 I/O (D4) (211) (io), 62 I/O (214) (io), 65 I/O (D3) (217) (io), 66 I/O (~{RS}) (220) (io), 67 I/O (223) (io), 68 I/O (D2) (229) (io), 69 I/O (232) (io), 70 I/O (D1) (235) (io), 71 I/O (~{RCLK}, RDY/~{BUSY}) (238) (io), 72 I/O (D0, DIN) (241) (io), 73 I/O, SGCK4 (DOUT) (244) (io), 78 I/O (A0, ~{WS}) (2) (io), 79 I/O, PGCK4 (A1) (5) (io), 80 I/O (CS1, A2) (8) (io), 81 I/O (A3) (11) (io), 82 I/O (A4) (14) (io), 83 I/O (A5) (17) (io), 84 I/O (20) (io), 85 I/O (23) (io), 86 I/O (A6) (26) (io), 87 I/O (A7) (29) (io), 90 I/O (A8) (32) (io), 91 I/O (A9) (35) (io), 92 I/O (38) (io), 93 I/O (41) (io), 94 I/O (A10) (44) (io), 95 I/O (A11) (47) (io), 96 I/O (A12) (50) (io), 97 I/O (A13) (53) (io), 98 I/O (A14) (56) (io), 99 I/O, SGCK1 (A15) (59) (io)
part B pins: 1 GND (power), 4 I/O, TDI (68) (io), 5 I/O, TCK (71) (io), 6 I/O, TMS (74) (io), 11 GND (power), 12 VCC (power), 22 O (M1) (122) (io), 23 GND (power), 24 I (M0) (125) (in), 25 VCC (power), 26 I (M2) (126) (in), 37 VCC (power), 38 GND (power), 49 GND (power), 50 DONE (io), 51 VCC (power), 52 ~{PROGRAM} (in), 63 VCC (power), 64 GND (power), 74 CCLK (io), 75 VCC (power), 76 O, TDO (0) (hiz), 77 GND (power), 88 GND (power), 89 VCC (power), 100 VCC (power)

## XC4003E-2VQ100I
designator U?
XC4000E FPGA, 77 I/Os, 100-Pin VQFP, Speed Grade 2, Industrial Grade; Published: 28-Feb-2003; LatestRevisionDate: 13-Apr-2006; LatestRevisionNote: IPC-7351 Footprint Added.; DatasheetVersion: ver1.6, May-1999; PackageVersion: ver1.2.1, Feb-2007; PackageReference: VQ100; Publisher: Altium Limited; PackageDescription: 100-Pin Very Thin Quad Flat Pack (VQ100); Supplier 1: Digi-Key; Supplier Part Number 1: XC4003E-2VQ100I-ND; Code_JEDEC: MS-026-AED; ComponentLink1Description: XC4000E Datasheet; ComponentLink1URL: http://www.xilinx.com/support/documentation/data_sheets/4000.pdf; ComponentLink2Description: Discontinuation Notice; ComponentLink2URL: http://www.xilinx.com/support/documentation/customer_notices/pdn2004-21.pdf; ComponentLink3Description: VQ100 Package Drawing; ComponentLink3URL: http://www.xilinx.com/support/documentation/package_specs/vq100.pdf; ComponentLink4Description: XC4000 Documents; ComponentLink4URL: http://www.xilinx.com/support/documentation/xc4000.htm; ComponentLink5Description: Xilinx.com Home; ComponentLink5URL: http://www.xilinx.com
footprint VQ100_N (Thin QFP, 100-Leads, Body 14x14mm, Pitch 0.5mm, IPC Medium Density)
footprint VQ100_L (Thin QFP, 100-Leads, Body 14x14mm, Pitch 0.5mm, IPC High Density)
footprint VQ100_M (Thin QFP, 100-Leads, Body 14x14mm, Pitch 0.5mm, IPC Low Density)
part A pins: 2 I/O, PGCK1 (A16) (62) (io), 3 I/O (A17) (65) (io), 7 I/O (77) (io), 8 I/O (83) (io), 9 I/O (86) (io), 10 I/O (89) (io), 13 I/O (92) (io), 14 I/O (95) (io), 15 I/O (98) (io), 16 I/O (104) (io), 17 I/O (107) (io), 18 I/O (110) (io), 19 I/O (113) (io), 20 I/O (116) (io), 21 I/O, SGCK2 (119) (io), 27 I/O, PGCK2 (127) (io), 28 I/O (HDC) (130) (io), 29 I/O (133) (io), 30 I/O (~{LDC}) (136) (io), 31 I/O (139) (io), 32 I/O (142) (io), 33 I/O (145) (io), 34 I/O (148) (io), 35 I/O (151) (io), 36 I/O (~{INIT}) (154) (io), 39 I/O (157) (io), 40 I/O (160) (io), 41 I/O (163) (io), 42 I/O (166) (io), 43 I/O (169) (io), 44 I/O (172) (io), 45 I/O (175) (io), 46 I/O (178) (io), 47 I/O (181) (io), 48 I/O, SGCK3 (184) (io), 53 I/O (D7) (187) (io), 54 I/O, PGCK3 (190) (io), 55 I/O (D6) (193) (io), 56 I/O (196) (io), 57 I/O (D5) (199) (io), 58 I/O (~{CS0}) (202) (io), 59 I/O (205) (io), 60 I/O (208) (io), 61 I/O (D4) (211) (io), 62 I/O (214) (io), 65 I/O (D3) (217) (io), 66 I/O (~{RS}) (220) (io), 67 I/O (223) (io), 68 I/O (D2) (229) (io), 69 I/O (232) (io), 70 I/O (D1) (235) (io), 71 I/O (~{RCLK}, RDY/~{BUSY}) (238) (io), 72 I/O (D0, DIN) (241) (io), 73 I/O, SGCK4 (DOUT) (244) (io), 78 I/O (A0, ~{WS}) (2) (io), 79 I/O, PGCK4 (A1) (5) (io), 80 I/O (CS1, A2) (8) (io), 81 I/O (A3) (11) (io), 82 I/O (A4) (14) (io), 83 I/O (A5) (17) (io), 84 I/O (20) (io), 85 I/O (23) (io), 86 I/O (A6) (26) (io), 87 I/O (A7) (29) (io), 90 I/O (A8) (32) (io), 91 I/O (A9) (35) (io), 92 I/O (38) (io), 93 I/O (41) (io), 94 I/O (A10) (44) (io), 95 I/O (A11) (47) (io), 96 I/O (A12) (50) (io), 97 I/O (A13) (53) (io), 98 I/O (A14) (56) (io), 99 I/O, SGCK1 (A15) (59) (io)
part B pins: 1 GND (power), 4 I/O, TDI (68) (io), 5 I/O, TCK (71) (io), 6 I/O, TMS (74) (io), 11 GND (power), 12 VCC (power), 22 O (M1) (122) (io), 23 GND (power), 24 I (M0) (125) (in), 25 VCC (power), 26 I (M2) (126) (in), 37 VCC (power), 38 GND (power), 49 GND (power), 50 DONE (io), 51 VCC (power), 52 ~{PROGRAM} (in), 63 VCC (power), 64 GND (power), 74 CCLK (io), 75 VCC (power), 76 O, TDO (0) (hiz), 77 GND (power), 88 GND (power), 89 VCC (power), 100 VCC (power)

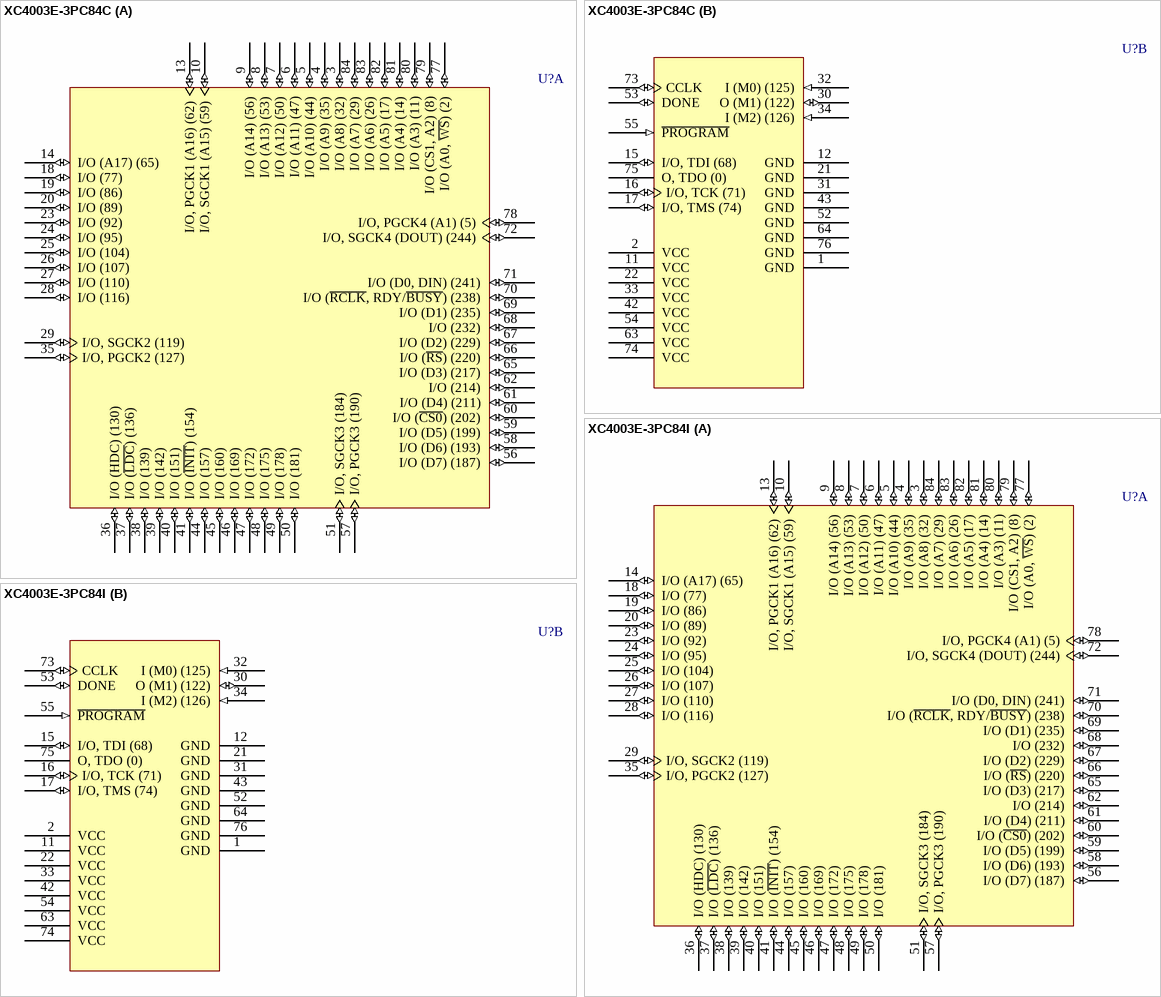
[diagram p6: symbols XC4003E-3PC84C to XC4003E-3PC84I]

## XC4003E-3PC84C
designator U?
XC4000E FPGA, 61 I/Os, 84-Pin PLCC, Speed Grade 3, Commercial Grade; Published: 28-Feb-2003; LatestRevisionDate: 13-Apr-2006; LatestRevisionNote: IPC-7351 Footprint Added.; DatasheetVersion: ver1.6, May-1999; PackageVersion: ver1.2, Jun-2004; PackageReference: PC84; Publisher: Altium Limited; PackageDescription: 84-Pin Plastic Leaded Chip Carrier (PC84); Supplier 1: Digi-Key; Supplier Part Number 1: XC4003E-3PC84C-ND; Code_JEDEC: MS-047; Code_IPC: PLCC-84; ComponentLink1Description: XC4000E Datasheet; ComponentLink1URL: http://www.xilinx.com/support/documentation/data_sheets/4000.pdf; ComponentLink2Description: Discontinuation Notice; ComponentLink2URL: http://www.xilinx.com/support/documentation/customer_notices/xcn05020.pdf; ComponentLink3Description: PC84 Package Drawing; ComponentLink3URL: http://www.xilinx.com/support/documentation/package_specs/pc84.pdf; ComponentLink4Description: XC4000 Documents; ComponentLink4URL: http://www.xilinx.com/support/documentation/xc4000.htm; ComponentLink5Description: Xilinx.com Home; ComponentLink5URL: http://www.xilinx.com
footprint PC84_N (Leaded Chip Carrier, 84-Leads, Body 29.3x29.3mm, Pitch 1.27mm, IPC Medium Density)
footprint PC84_L (Leaded Chip Carrier, 84-Leads, Body 29.3x29.3mm, Pitch 1.27mm, IPC High Density)
footprint PC84_M (Leaded Chip Carrier, 84-Leads, Body 29.3x29.3mm, Pitch 1.27mm, IPC Low Density)
part A pins: 3 I/O (A8) (32) (io), 4 I/O (A9) (35) (io), 5 I/O (A10) (44) (io), 6 I/O (A11) (47) (io), 7 I/O (A12) (50) (io), 8 I/O (A13) (53) (io), 9 I/O (A14) (56) (io), 10 I/O, SGCK1 (A15) (59) (io), 13 I/O, PGCK1 (A16) (62) (io), 14 I/O (A17) (65) (io), 18 I/O (77) (io), 19 I/O (86) (io), 20 I/O (89) (io), 23 I/O (92) (io), 24 I/O (95) (io), 25 I/O (104) (io), 26 I/O (107) (io), 27 I/O (110) (io), 28 I/O (116) (io), 29 I/O, SGCK2 (119) (io), 35 I/O, PGCK2 (127) (io), 36 I/O (HDC) (130) (io), 37 I/O (~{LDC}) (136) (io), 38 I/O (139) (io), 39 I/O (142) (io), 40 I/O (151) (io), 41 I/O (~{INIT}) (154) (io), 44 I/O (157) (io), 45 I/O (160) (io), 46 I/O (169) (io), 47 I/O (172) (io), 48 I/O (175) (io), 49 I/O (178) (io), 50 I/O (181) (io), 51 I/O, SGCK3 (184) (io), 56 I/O (D7) (187) (io), 57 I/O, PGCK3 (190) (io), 58 I/O (D6) (193) (io), 59 I/O (D5) (199) (io), 60 I/O (~{CS0}) (202) (io), 61 I/O (D4) (211) (io), 62 I/O (214) (io), 65 I/O (D3) (217) (io), 66 I/O (~{RS}) (220) (io), 67 I/O (D2) (229) (io), 68 I/O (232) (io), 69 I/O (D1) (235) (io), 70 I/O (~{RCLK}, RDY/~{BUSY}) (238) (io), 71 I/O (D0, DIN) (241) (io), 72 I/O, SGCK4 (DOUT) (244) (io), 77 I/O (A0, ~{WS}) (2) (io), 78 I/O, PGCK4 (A1) (5) (io), 79 I/O (CS1, A2) (8) (io), 80 I/O (A3) (11) (io), 81 I/O (A4) (14) (io), 82 I/O (A5) (17) (io), 83 I/O (A6) (26) (io), 84 I/O (A7) (29) (io)
part B pins: 1 GND (power), 2 VCC (power), 11 VCC (power), 12 GND (power), 15 I/O, TDI (68) (io), 16 I/O, TCK (71) (io), 17 I/O, TMS (74) (io), 21 GND (power), 22 VCC (power), 30 O (M1) (122) (io), 31 GND (power), 32 I (M0) (125) (in), 33 VCC (power), 34 I (M2) (126) (in), 42 VCC (power), 43 GND (power), 52 GND (power), 53 DONE (io), 54 VCC (power), 55 ~{PROGRAM} (in), 63 VCC (power), 64 GND (power), 73 CCLK (io), 74 VCC (power), 75 O, TDO (0) (hiz), 76 GND (power)

## XC4003E-3PC84I
designator U?
XC4000E FPGA, 61 I/Os, 84-Pin PLCC, Speed Grade 3, Industrial Grade; Published: 28-Feb-2003; LatestRevisionDate: 13-Apr-2006; LatestRevisionNote: IPC-7351 Footprint Added.; DatasheetVersion: ver1.6, May-1999; PackageVersion: ver1.2, Jun-2004; PackageReference: PC84; Publisher: Altium Limited; PackageDescription: 84-Pin Plastic Leaded Chip Carrier (PC84); Supplier 1: Digi-Key; Supplier Part Number 1: XC4003E-3PC84I-ND; Code_JEDEC: MS-047; Code_IPC: PLCC-84; ComponentLink1Description: XC4000E Datasheet; ComponentLink1URL: http://www.xilinx.com/support/documentation/data_sheets/4000.pdf; ComponentLink2Description: Discontinuation Notice; ComponentLink2URL: http://www.xilinx.com/support/documentation/customer_notices/xcn05020.pdf; ComponentLink3Description: PC84 Package Drawing; ComponentLink3URL: http://www.xilinx.com/support/documentation/package_specs/pc84.pdf; ComponentLink4Description: XC4000 Documents; ComponentLink4URL: http://www.xilinx.com/support/documentation/xc4000.htm; ComponentLink5Description: Xilinx.com Home; ComponentLink5URL: http://www.xilinx.com
footprint PC84_N (Leaded Chip Carrier, 84-Leads, Body 29.3x29.3mm, Pitch 1.27mm, IPC Medium Density)
footprint PC84_L (Leaded Chip Carrier, 84-Leads, Body 29.3x29.3mm, Pitch 1.27mm, IPC High Density)
footprint PC84_M (Leaded Chip Carrier, 84-Leads, Body 29.3x29.3mm, Pitch 1.27mm, IPC Low Density)
part A pins: 3 I/O (A8) (32) (io), 4 I/O (A9) (35) (io), 5 I/O (A10) (44) (io), 6 I/O (A11) (47) (io), 7 I/O (A12) (50) (io), 8 I/O (A13) (53) (io), 9 I/O (A14) (56) (io), 10 I/O, SGCK1 (A15) (59) (io), 13 I/O, PGCK1 (A16) (62) (io), 14 I/O (A17) (65) (io), 18 I/O (77) (io), 19 I/O (86) (io), 20 I/O (89) (io), 23 I/O (92) (io), 24 I/O (95) (io), 25 I/O (104) (io), 26 I/O (107) (io), 27 I/O (110) (io), 28 I/O (116) (io), 29 I/O, SGCK2 (119) (io), 35 I/O, PGCK2 (127) (io), 36 I/O (HDC) (130) (io), 37 I/O (~{LDC}) (136) (io), 38 I/O (139) (io), 39 I/O (142) (io), 40 I/O (151) (io), 41 I/O (~{INIT}) (154) (io), 44 I/O (157) (io), 45 I/O (160) (io), 46 I/O (169) (io), 47 I/O (172) (io), 48 I/O (175) (io), 49 I/O (178) (io), 50 I/O (181) (io), 51 I/O, SGCK3 (184) (io), 56 I/O (D7) (187) (io), 57 I/O, PGCK3 (190) (io), 58 I/O (D6) (193) (io), 59 I/O (D5) (199) (io), 60 I/O (~{CS0}) (202) (io), 61 I/O (D4) (211) (io), 62 I/O (214) (io), 65 I/O (D3) (217) (io), 66 I/O (~{RS}) (220) (io), 67 I/O (D2) (229) (io), 68 I/O (232) (io), 69 I/O (D1) (235) (io), 70 I/O (~{RCLK}, RDY/~{BUSY}) (238) (io), 71 I/O (D0, DIN) (241) (io), 72 I/O, SGCK4 (DOUT) (244) (io), 77 I/O (A0, ~{WS}) (2) (io), 78 I/O, PGCK4 (A1) (5) (io), 79 I/O (CS1, A2) (8) (io), 80 I/O (A3) (11) (io), 81 I/O (A4) (14) (io), 82 I/O (A5) (17) (io), 83 I/O (A6) (26) (io), 84 I/O (A7) (29) (io)
part B pins: 1 GND (power), 2 VCC (power), 11 VCC (power), 12 GND (power), 15 I/O, TDI (68) (io), 16 I/O, TCK (71) (io), 17 I/O, TMS (74) (io), 21 GND (power), 22 VCC (power), 30 O (M1) (122) (io), 31 GND (power), 32 I (M0) (125) (in), 33 VCC (power), 34 I (M2) (126) (in), 42 VCC (power), 43 GND (power), 52 GND (power), 53 DONE (io), 54 VCC (power), 55 ~{PROGRAM} (in), 63 VCC (power), 64 GND (power), 73 CCLK (io), 74 VCC (power), 75 O, TDO (0) (hiz), 76 GND (power)

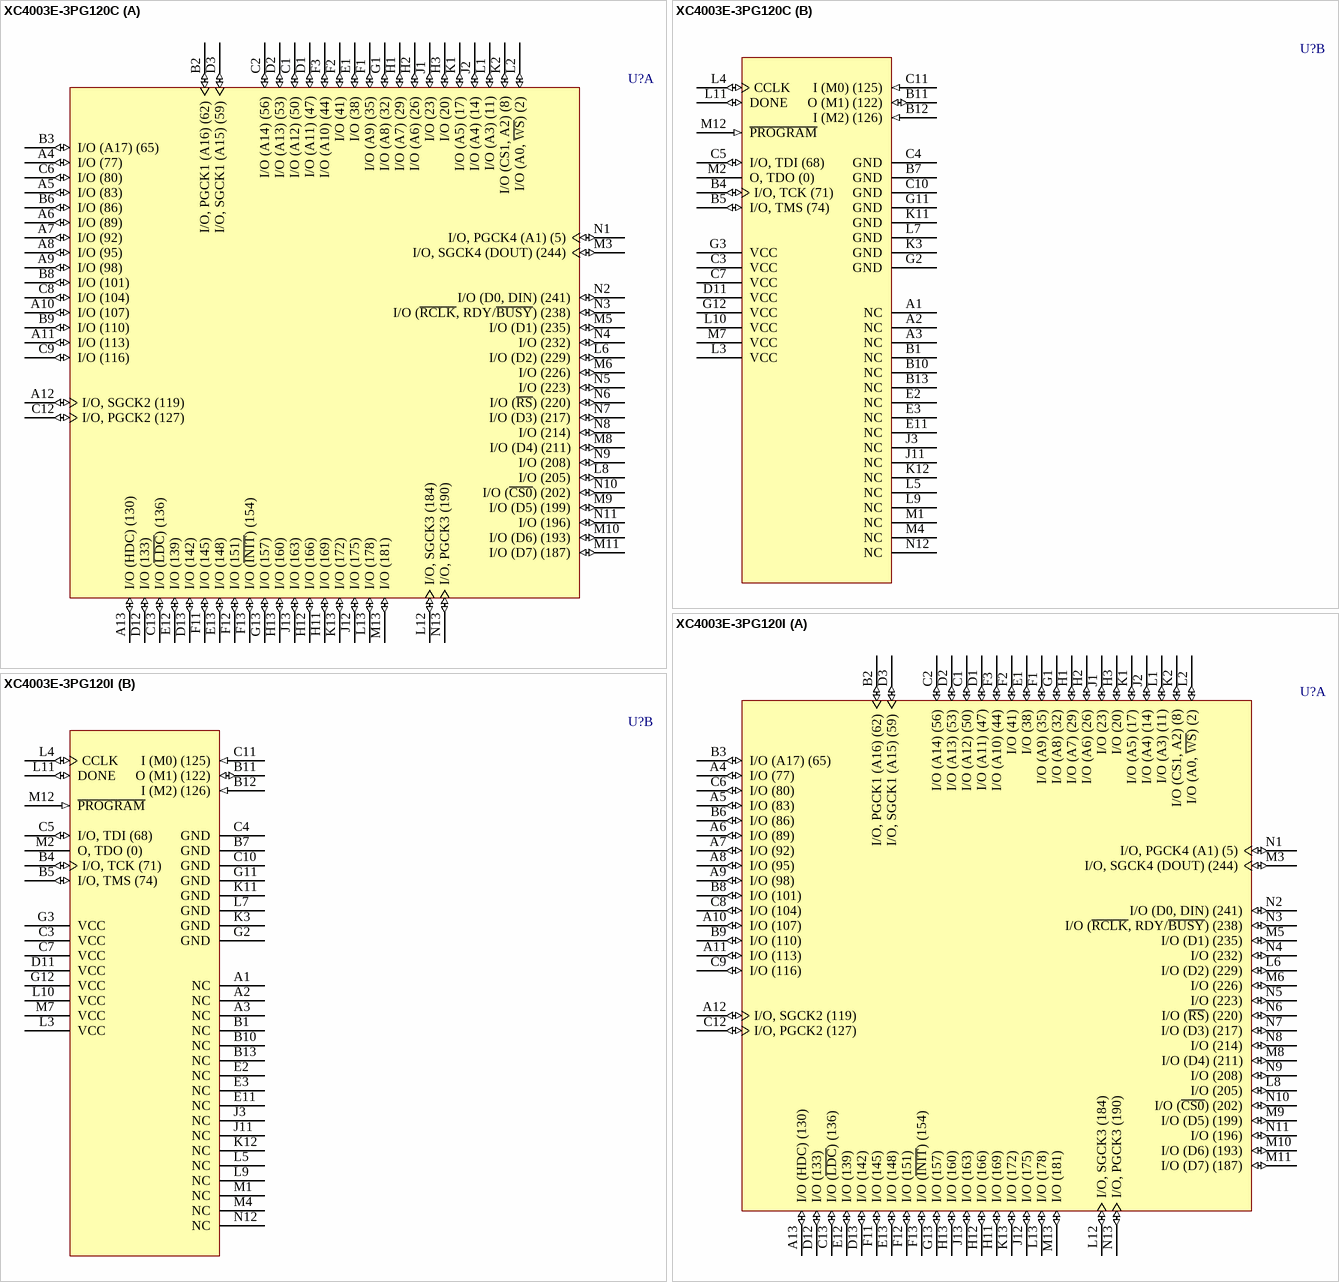
[diagram p7: symbols XC4003E-3PG120C to XC4003E-3PG120I]